# Altium integrated library Renesas Microcontroller 740.IntLib: 274 symbols (part 5 of 13)
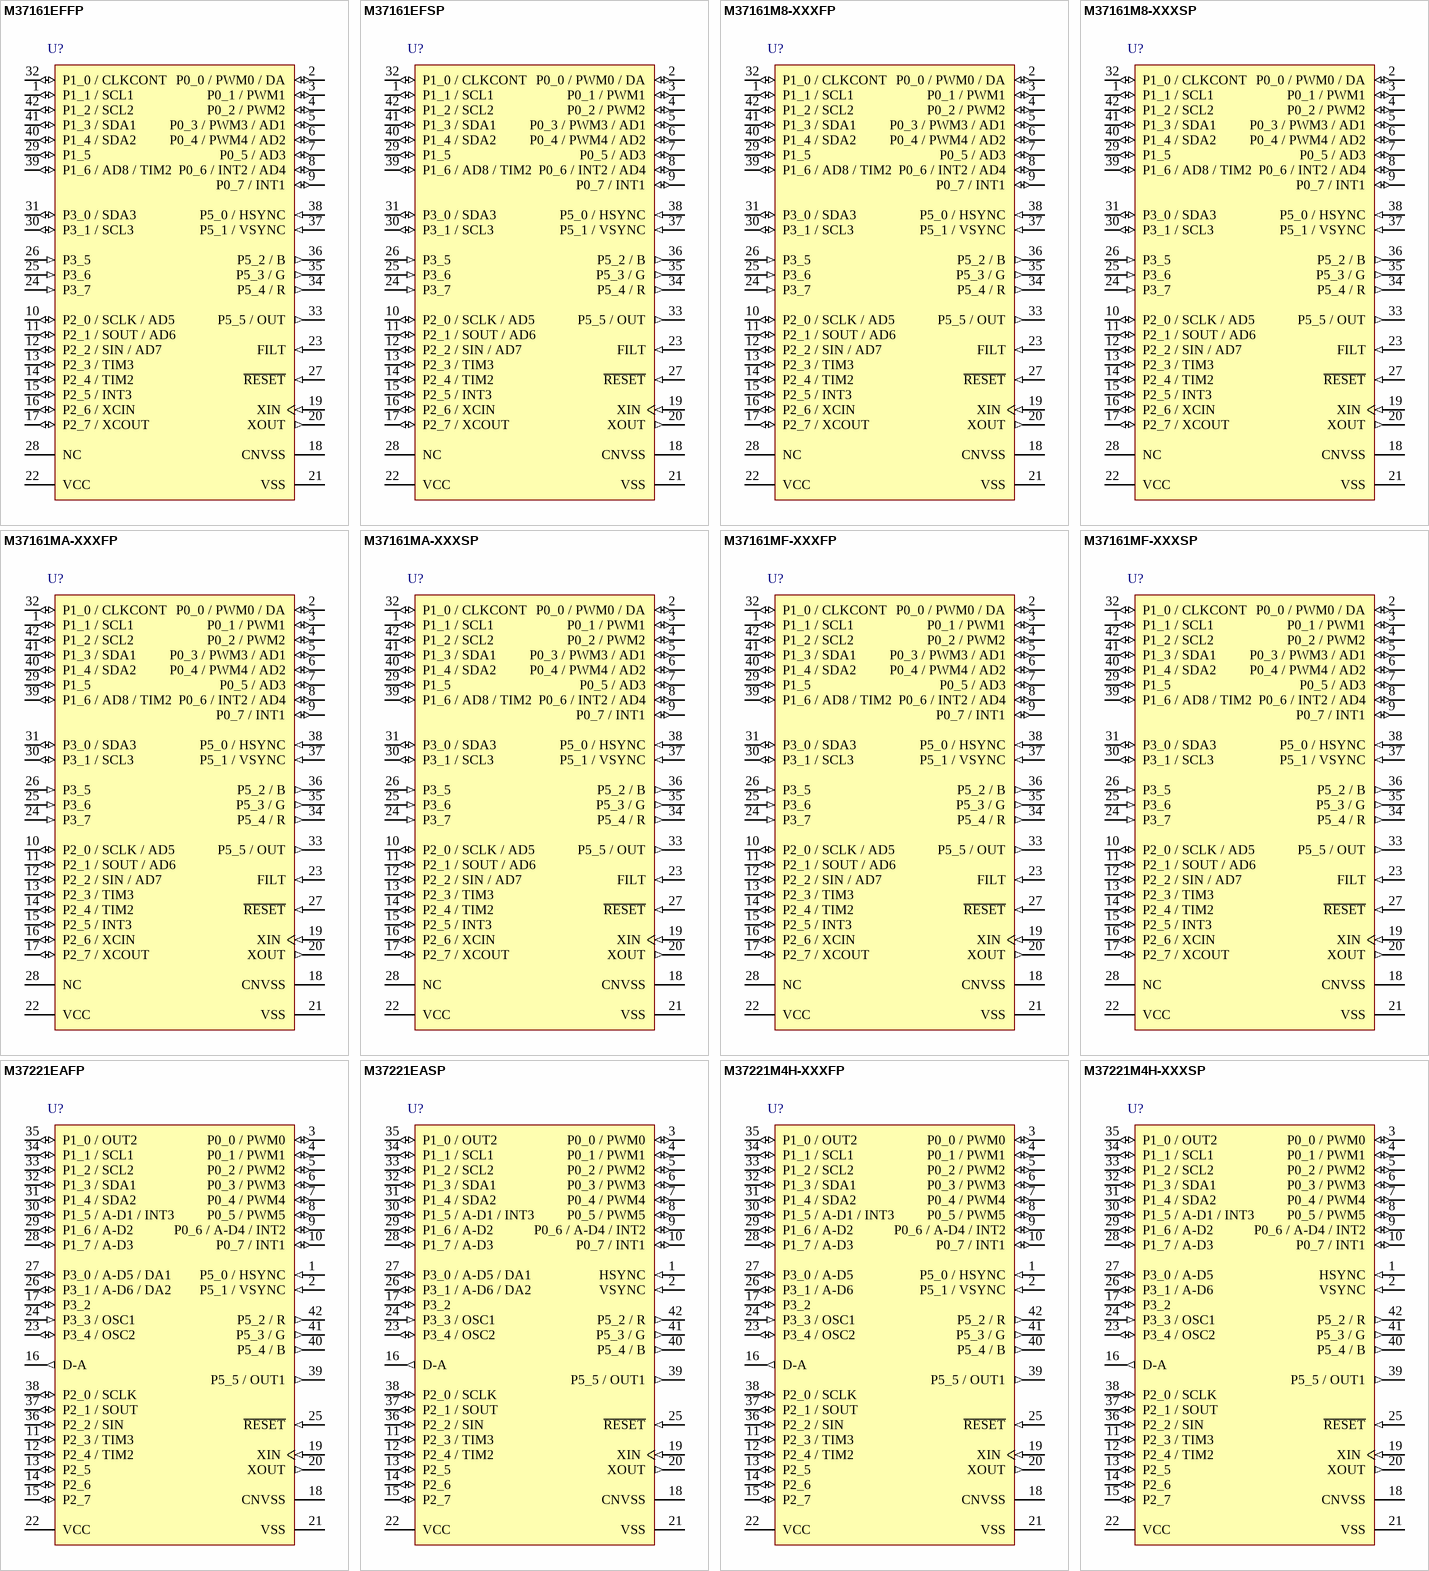
[diagram p41: symbols M37161EFFP to M37221M4H-XXXSP]

## M37221EASP
designator U?
OTP 8-BIT CMOS Microcomputer, 7200 Series CPU, 7221 Group, 40K ROM, 704 bytes RAM, 42P4B Pkg; ComponentAvailability: Check status with vendor; Published: 28-Aug-2009; DatasheetVersion: Rev.1.00, Oct-2002; PackageVersion: Sep-2005; PackageReference: PRDP0042BA-A; Publisher: Altium Limited; PackageDescription: 42-Pin Plastic Shrink DIP, 36.7 x 13 mm Body, 15.24 mm Row Spacing, 1.778 mm Pitch; Code_JEITA: P-SDIP42-13x36.72-1.78; ComponentLink1Description: Manufacturer Link; ComponentLink1URL: http://sg.renesas.com/fmwk.jsp?cnt=740_family_landing.jsp&fp=/products/mpumcu/740_family/; ComponentLink2Description: Datasheet; ComponentLink2URL: http://documentation.renesas.com/eng/products/mpumcu/rej03b0134_7221ds.pdf; ComponentLink3Description: Packaging Specification; ComponentLink3URL: http://sg.renesas.com/media/products/common_info/package/pdf/ic/code/prdp0042ba_a.pdf
footprint PRDP0042BA-A (DIP, 42-Leads, Row Spacing 15.24mm, Pitch 1.778mm, Body 36.7x13mm)
pins: 1 HSYNC (in), 2 VSYNC (in), 3 P0_0 / PWM0 (io), 4 P0_1 / PWM1 (io), 5 P0_2 / PWM2 (io), 6 P0_3 / PWM3 (io), 7 P0_4 / PWM4 (io), 8 P0_5 / PWM5 (io), 9 P0_6 / A-D4 / INT2 (io), 10 P0_7 / INT1 (io), 11 P2_3 / TIM3 (io), 12 P2_4 / TIM2 (io), 13 P2_5 (io), 14 P2_6 (io), 15 P2_7 (io), 16 D-A (out), 17 P3_2 (io), 18 CNVSS (power), 19 XIN (in), 20 XOUT (out), 21 VSS (power), 22 VCC (power), 23 P3_4 / OSC2 (io), 24 P3_3 / OSC1 (in), 25 ~{RESET} (in), 26 P3_1 / A-D6 / DA2 (io), 27 P3_0 / A-D5 / DA1 (io), 28 P1_7 / A-D3 (io), 29 P1_6 / A-D2 (io), 30 P1_5 / A-D1 / INT3 (io), 31 P1_4 / SDA2 (io), 32 P1_3 / SDA1 (io), 33 P1_2 / SCL2 (io), 34 P1_1 / SCL1 (io), 35 P1_0 / OUT2 (io), 36 P2_2 / SIN (io), 37 P2_1 / SOUT (io), 38 P2_0 / SCLK (io), 39 P5_5 / OUT1 (out), 40 P5_4 / B (out), 41 P5_3 / G (out), 42 P5_2 / R (out)

## M37221M4H-XXXFP
designator U?
Mask ROM 8-BIT CMOS Microcomputer, 7200 Series CPU, 7221 Group, 16K ROM, 384 bytes RAM, 42P2R-E Pkg; ComponentAvailability: Check status with vendor; Published: 28-Aug-2009; DatasheetVersion: Rev.1.00, Oct-2002; PackageVersion: Sep-2005; PackageReference: PRSP0042GA-B; Publisher: Altium Limited; PackageDescription: 42-Pin Plastic Shrink SOP, 17.5 x 8.4 mm Body, 0.8 mm Pitch; Code_JEITA: P-SSOP42-8.4x17.5-0.80; ComponentLink1Description: Manufacturer Link; ComponentLink1URL: http://sg.renesas.com/fmwk.jsp?cnt=740_family_landing.jsp&fp=/products/mpumcu/740_family/; ComponentLink2Description: Datasheet; ComponentLink2URL: http://documentation.renesas.com/eng/products/mpumcu/rej03b0134_7221ds.pdf; ComponentLink3Description: Packaging Specification; ComponentLink3URL: http://sg.renesas.com/media/products/common_info/package/pdf/ic/code/prsp0042ga_b.pdf
footprint PRSP0042GA-B_N (SOP, 42-Leads, Body 17.5x8.4mm, Pitch 0.8mm, IPC Medium Density)
footprint PRSP0042GA-B_L (SOP, 42-Leads, Body 17.5x8.4mm, Pitch 0.8mm, IPC High Density)
footprint PRSP0042GA-B_M (SOP, 42-Leads, Body 17.5x8.4mm, Pitch 0.8mm, IPC Low Density)
pins: 1 P5_0 / HSYNC (in), 2 P5_1 / VSYNC (in), 3 P0_0 / PWM0 (io), 4 P0_1 / PWM1 (io), 5 P0_2 / PWM2 (io), 6 P0_3 / PWM3 (io), 7 P0_4 / PWM4 (io), 8 P0_5 / PWM5 (io), 9 P0_6 / A-D4 / INT2 (io), 10 P0_7 / INT1 (io), 11 P2_3 / TIM3 (io), 12 P2_4 / TIM2 (io), 13 P2_5 (io), 14 P2_6 (io), 15 P2_7 (io), 16 D-A (out), 17 P3_2 (io), 18 CNVSS (power), 19 XIN (in), 20 XOUT (out), 21 VSS (power), 22 VCC (power), 23 P3_4 / OSC2 (io), 24 P3_3 / OSC1 (in), 25 ~{RESET} (in), 26 P3_1 / A-D6 (io), 27 P3_0 / A-D5 (io), 28 P1_7 / A-D3 (io), 29 P1_6 / A-D2 (io), 30 P1_5 / A-D1 / INT3 (io), 31 P1_4 / SDA2 (io), 32 P1_3 / SDA1 (io), 33 P1_2 / SCL2 (io), 34 P1_1 / SCL1 (io), 35 P1_0 / OUT2 (io), 36 P2_2 / SIN (io), 37 P2_1 / SOUT (io), 38 P2_0 / SCLK (io), 39 P5_5 / OUT1 (out), 40 P5_4 / B (out), 41 P5_3 / G (out), 42 P5_2 / R (out)

## M37221M4H-XXXSP
designator U?
Mask ROM 8-BIT CMOS Microcomputer, 7200 Series CPU, 7221 Group, 16K ROM, 384 bytes RAM, 42P4B Pkg; ComponentAvailability: Check status with vendor; Published: 28-Aug-2009; DatasheetVersion: Rev.1.00, Oct-2002; PackageVersion: Sep-2005; PackageReference: PRDP0042BA-A; Publisher: Altium Limited; PackageDescription: 42-Pin Plastic Shrink DIP, 36.7 x 13 mm Body, 15.24 mm Row Spacing, 1.778 mm Pitch; Code_JEITA: P-SDIP42-13x36.72-1.78; ComponentLink1Description: Manufacturer Link; ComponentLink1URL: http://sg.renesas.com/fmwk.jsp?cnt=740_family_landing.jsp&fp=/products/mpumcu/740_family/; ComponentLink2Description: Datasheet; ComponentLink2URL: http://documentation.renesas.com/eng/products/mpumcu/rej03b0134_7221ds.pdf; ComponentLink3Description: Packaging Specification; ComponentLink3URL: http://sg.renesas.com/media/products/common_info/package/pdf/ic/code/prdp0042ba_a.pdf
footprint PRDP0042BA-A (DIP, 42-Leads, Row Spacing 15.24mm, Pitch 1.778mm, Body 36.7x13mm)
pins: 1 HSYNC (in), 2 VSYNC (in), 3 P0_0 / PWM0 (io), 4 P0_1 / PWM1 (io), 5 P0_2 / PWM2 (io), 6 P0_3 / PWM3 (io), 7 P0_4 / PWM4 (io), 8 P0_5 / PWM5 (io), 9 P0_6 / A-D4 / INT2 (io), 10 P0_7 / INT1 (io), 11 P2_3 / TIM3 (io), 12 P2_4 / TIM2 (io), 13 P2_5 (io), 14 P2_6 (io), 15 P2_7 (io), 16 D-A (out), 17 P3_2 (io), 18 CNVSS (power), 19 XIN (in), 20 XOUT (out), 21 VSS (power), 22 VCC (power), 23 P3_4 / OSC2 (io), 24 P3_3 / OSC1 (in), 25 ~{RESET} (in), 26 P3_1 / A-D6 (io), 27 P3_0 / A-D5 (io), 28 P1_7 / A-D3 (io), 29 P1_6 / A-D2 (io), 30 P1_5 / A-D1 / INT3 (io), 31 P1_4 / SDA2 (io), 32 P1_3 / SDA1 (io), 33 P1_2 / SCL2 (io), 34 P1_1 / SCL1 (io), 35 P1_0 / OUT2 (io), 36 P2_2 / SIN (io), 37 P2_1 / SOUT (io), 38 P2_0 / SCLK (io), 39 P5_5 / OUT1 (out), 40 P5_4 / B (out), 41 P5_3 / G (out), 42 P5_2 / R (out)

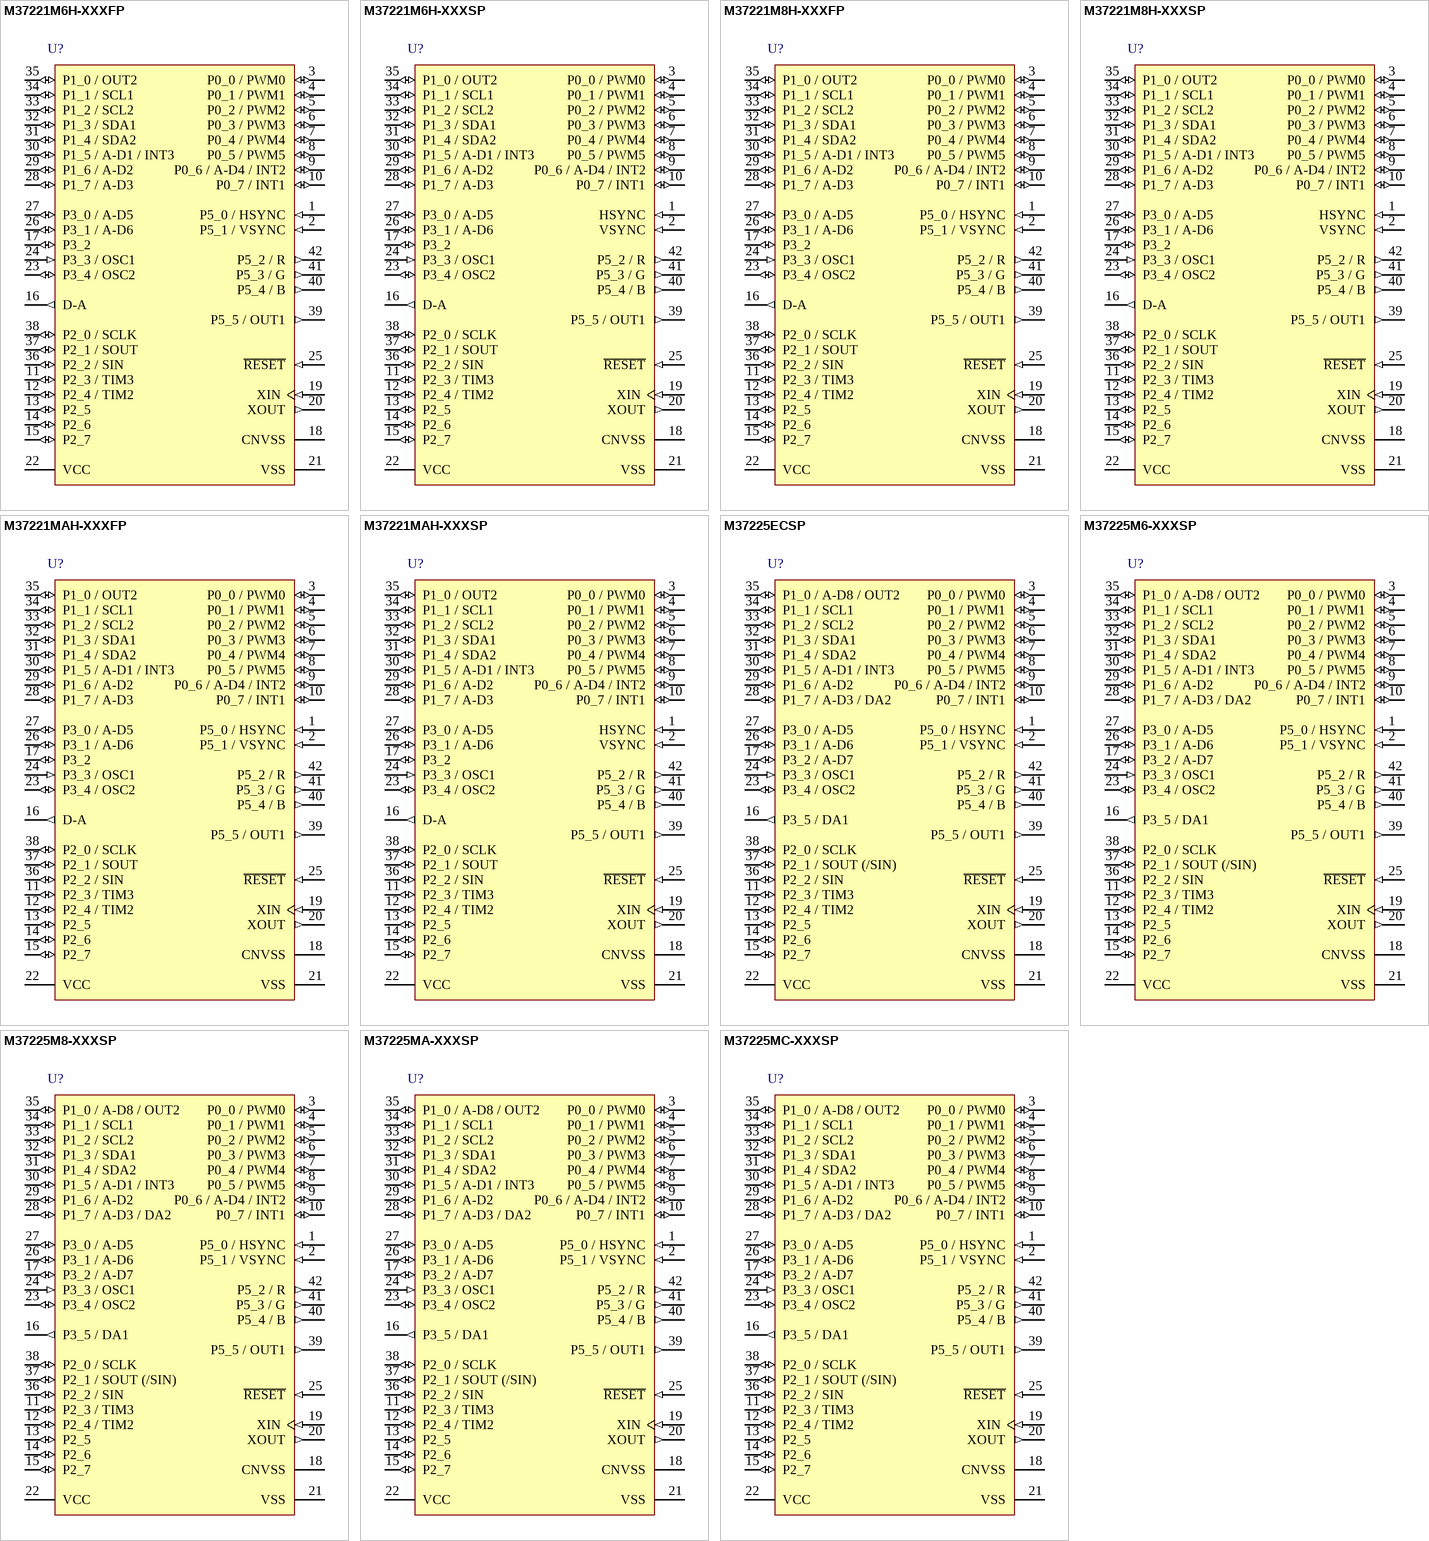
[diagram p14: symbols M37221M6H-XXXFP to M37225MC-XXXSP]

## M37221M6H-XXXFP
designator U?
Mask ROM 8-BIT CMOS Microcomputer, 7200 Series CPU, 7221 Group, 24K ROM, 448 bytes RAM, 42P2R-E Pkg; ComponentAvailability: Check status with vendor; Published: 28-Aug-2009; DatasheetVersion: Rev.1.00, Oct-2002; PackageVersion: Sep-2005; PackageReference: PRSP0042GA-B; Publisher: Altium Limited; PackageDescription: 42-Pin Plastic Shrink SOP, 17.5 x 8.4 mm Body, 0.8 mm Pitch; Code_JEITA: P-SSOP42-8.4x17.5-0.80; ComponentLink1Description: Manufacturer Link; ComponentLink1URL: http://sg.renesas.com/fmwk.jsp?cnt=740_family_landing.jsp&fp=/products/mpumcu/740_family/; ComponentLink2Description: Datasheet; ComponentLink2URL: http://documentation.renesas.com/eng/products/mpumcu/rej03b0134_7221ds.pdf; ComponentLink3Description: Packaging Specification; ComponentLink3URL: http://sg.renesas.com/media/products/common_info/package/pdf/ic/code/prsp0042ga_b.pdf
footprint PRSP0042GA-B_N (SOP, 42-Leads, Body 17.5x8.4mm, Pitch 0.8mm, IPC Medium Density)
footprint PRSP0042GA-B_L (SOP, 42-Leads, Body 17.5x8.4mm, Pitch 0.8mm, IPC High Density)
footprint PRSP0042GA-B_M (SOP, 42-Leads, Body 17.5x8.4mm, Pitch 0.8mm, IPC Low Density)
pins: 1 P5_0 / HSYNC (in), 2 P5_1 / VSYNC (in), 3 P0_0 / PWM0 (io), 4 P0_1 / PWM1 (io), 5 P0_2 / PWM2 (io), 6 P0_3 / PWM3 (io), 7 P0_4 / PWM4 (io), 8 P0_5 / PWM5 (io), 9 P0_6 / A-D4 / INT2 (io), 10 P0_7 / INT1 (io), 11 P2_3 / TIM3 (io), 12 P2_4 / TIM2 (io), 13 P2_5 (io), 14 P2_6 (io), 15 P2_7 (io), 16 D-A (out), 17 P3_2 (io), 18 CNVSS (power), 19 XIN (in), 20 XOUT (out), 21 VSS (power), 22 VCC (power), 23 P3_4 / OSC2 (io), 24 P3_3 / OSC1 (in), 25 ~{RESET} (in), 26 P3_1 / A-D6 (io), 27 P3_0 / A-D5 (io), 28 P1_7 / A-D3 (io), 29 P1_6 / A-D2 (io), 30 P1_5 / A-D1 / INT3 (io), 31 P1_4 / SDA2 (io), 32 P1_3 / SDA1 (io), 33 P1_2 / SCL2 (io), 34 P1_1 / SCL1 (io), 35 P1_0 / OUT2 (io), 36 P2_2 / SIN (io), 37 P2_1 / SOUT (io), 38 P2_0 / SCLK (io), 39 P5_5 / OUT1 (out), 40 P5_4 / B (out), 41 P5_3 / G (out), 42 P5_2 / R (out)

## M37221M6H-XXXSP
designator U?
Mask ROM 8-BIT CMOS Microcomputer, 7200 Series CPU, 7221 Group, 24K ROM, 448 bytes RAM, 42P4B Pkg; ComponentAvailability: Check status with vendor; Published: 28-Aug-2009; DatasheetVersion: Rev.1.00, Oct-2002; PackageVersion: Sep-2005; PackageReference: PRDP0042BA-A; Publisher: Altium Limited; PackageDescription: 42-Pin Plastic Shrink DIP, 36.7 x 13 mm Body, 15.24 mm Row Spacing, 1.778 mm Pitch; Code_JEITA: P-SDIP42-13x36.72-1.78; ComponentLink1Description: Manufacturer Link; ComponentLink1URL: http://sg.renesas.com/fmwk.jsp?cnt=740_family_landing.jsp&fp=/products/mpumcu/740_family/; ComponentLink2Description: Datasheet; ComponentLink2URL: http://documentation.renesas.com/eng/products/mpumcu/rej03b0134_7221ds.pdf; ComponentLink3Description: Packaging Specification; ComponentLink3URL: http://sg.renesas.com/media/products/common_info/package/pdf/ic/code/prdp0042ba_a.pdf
footprint PRDP0042BA-A (DIP, 42-Leads, Row Spacing 15.24mm, Pitch 1.778mm, Body 36.7x13mm)
pins: 1 HSYNC (in), 2 VSYNC (in), 3 P0_0 / PWM0 (io), 4 P0_1 / PWM1 (io), 5 P0_2 / PWM2 (io), 6 P0_3 / PWM3 (io), 7 P0_4 / PWM4 (io), 8 P0_5 / PWM5 (io), 9 P0_6 / A-D4 / INT2 (io), 10 P0_7 / INT1 (io), 11 P2_3 / TIM3 (io), 12 P2_4 / TIM2 (io), 13 P2_5 (io), 14 P2_6 (io), 15 P2_7 (io), 16 D-A (out), 17 P3_2 (io), 18 CNVSS (power), 19 XIN (in), 20 XOUT (out), 21 VSS (power), 22 VCC (power), 23 P3_4 / OSC2 (io), 24 P3_3 / OSC1 (in), 25 ~{RESET} (in), 26 P3_1 / A-D6 (io), 27 P3_0 / A-D5 (io), 28 P1_7 / A-D3 (io), 29 P1_6 / A-D2 (io), 30 P1_5 / A-D1 / INT3 (io), 31 P1_4 / SDA2 (io), 32 P1_3 / SDA1 (io), 33 P1_2 / SCL2 (io), 34 P1_1 / SCL1 (io), 35 P1_0 / OUT2 (io), 36 P2_2 / SIN (io), 37 P2_1 / SOUT (io), 38 P2_0 / SCLK (io), 39 P5_5 / OUT1 (out), 40 P5_4 / B (out), 41 P5_3 / G (out), 42 P5_2 / R (out)

## M37221M8H-XXXFP
designator U?
Mask ROM 8-BIT CMOS Microcomputer, 7200 Series CPU, 7221 Group, 32K ROM, 576 bytes RAM, 42P2R-E Pkg; ComponentAvailability: Check status with vendor; Published: 28-Aug-2009; DatasheetVersion: Rev.1.00, Oct-2002; PackageVersion: Sep-2005; PackageReference: PRSP0042GA-B; Publisher: Altium Limited; PackageDescription: 42-Pin Plastic Shrink SOP, 17.5 x 8.4 mm Body, 0.8 mm Pitch; Code_JEITA: P-SSOP42-8.4x17.5-0.80; ComponentLink1Description: Manufacturer Link; ComponentLink1URL: http://sg.renesas.com/fmwk.jsp?cnt=740_family_landing.jsp&fp=/products/mpumcu/740_family/; ComponentLink2Description: Datasheet; ComponentLink2URL: http://documentation.renesas.com/eng/products/mpumcu/rej03b0134_7221ds.pdf; ComponentLink3Description: Packaging Specification; ComponentLink3URL: http://sg.renesas.com/media/products/common_info/package/pdf/ic/code/prsp0042ga_b.pdf
footprint PRSP0042GA-B_N (SOP, 42-Leads, Body 17.5x8.4mm, Pitch 0.8mm, IPC Medium Density)
footprint PRSP0042GA-B_L (SOP, 42-Leads, Body 17.5x8.4mm, Pitch 0.8mm, IPC High Density)
footprint PRSP0042GA-B_M (SOP, 42-Leads, Body 17.5x8.4mm, Pitch 0.8mm, IPC Low Density)
pins: 1 P5_0 / HSYNC (in), 2 P5_1 / VSYNC (in), 3 P0_0 / PWM0 (io), 4 P0_1 / PWM1 (io), 5 P0_2 / PWM2 (io), 6 P0_3 / PWM3 (io), 7 P0_4 / PWM4 (io), 8 P0_5 / PWM5 (io), 9 P0_6 / A-D4 / INT2 (io), 10 P0_7 / INT1 (io), 11 P2_3 / TIM3 (io), 12 P2_4 / TIM2 (io), 13 P2_5 (io), 14 P2_6 (io), 15 P2_7 (io), 16 D-A (out), 17 P3_2 (io), 18 CNVSS (power), 19 XIN (in), 20 XOUT (out), 21 VSS (power), 22 VCC (power), 23 P3_4 / OSC2 (io), 24 P3_3 / OSC1 (in), 25 ~{RESET} (in), 26 P3_1 / A-D6 (io), 27 P3_0 / A-D5 (io), 28 P1_7 / A-D3 (io), 29 P1_6 / A-D2 (io), 30 P1_5 / A-D1 / INT3 (io), 31 P1_4 / SDA2 (io), 32 P1_3 / SDA1 (io), 33 P1_2 / SCL2 (io), 34 P1_1 / SCL1 (io), 35 P1_0 / OUT2 (io), 36 P2_2 / SIN (io), 37 P2_1 / SOUT (io), 38 P2_0 / SCLK (io), 39 P5_5 / OUT1 (out), 40 P5_4 / B (out), 41 P5_3 / G (out), 42 P5_2 / R (out)

## M37221M8H-XXXSP
designator U?
Mask ROM 8-BIT CMOS Microcomputer, 7200 Series CPU, 7221 Group, 32K ROM, 576 bytes RAM, 42P4B Pkg; ComponentAvailability: Check status with vendor; Published: 28-Aug-2009; DatasheetVersion: Rev.1.00, Oct-2002; PackageVersion: Sep-2005; PackageReference: PRDP0042BA-A; Publisher: Altium Limited; PackageDescription: 42-Pin Plastic Shrink DIP, 36.7 x 13 mm Body, 15.24 mm Row Spacing, 1.778 mm Pitch; Code_JEITA: P-SDIP42-13x36.72-1.78; ComponentLink1Description: Manufacturer Link; ComponentLink1URL: http://sg.renesas.com/fmwk.jsp?cnt=740_family_landing.jsp&fp=/products/mpumcu/740_family/; ComponentLink2Description: Datasheet; ComponentLink2URL: http://documentation.renesas.com/eng/products/mpumcu/rej03b0134_7221ds.pdf; ComponentLink3Description: Packaging Specification; ComponentLink3URL: http://sg.renesas.com/media/products/common_info/package/pdf/ic/code/prdp0042ba_a.pdf
footprint PRDP0042BA-A (DIP, 42-Leads, Row Spacing 15.24mm, Pitch 1.778mm, Body 36.7x13mm)
pins: 1 HSYNC (in), 2 VSYNC (in), 3 P0_0 / PWM0 (io), 4 P0_1 / PWM1 (io), 5 P0_2 / PWM2 (io), 6 P0_3 / PWM3 (io), 7 P0_4 / PWM4 (io), 8 P0_5 / PWM5 (io), 9 P0_6 / A-D4 / INT2 (io), 10 P0_7 / INT1 (io), 11 P2_3 / TIM3 (io), 12 P2_4 / TIM2 (io), 13 P2_5 (io), 14 P2_6 (io), 15 P2_7 (io), 16 D-A (out), 17 P3_2 (io), 18 CNVSS (power), 19 XIN (in), 20 XOUT (out), 21 VSS (power), 22 VCC (power), 23 P3_4 / OSC2 (io), 24 P3_3 / OSC1 (in), 25 ~{RESET} (in), 26 P3_1 / A-D6 (io), 27 P3_0 / A-D5 (io), 28 P1_7 / A-D3 (io), 29 P1_6 / A-D2 (io), 30 P1_5 / A-D1 / INT3 (io), 31 P1_4 / SDA2 (io), 32 P1_3 / SDA1 (io), 33 P1_2 / SCL2 (io), 34 P1_1 / SCL1 (io), 35 P1_0 / OUT2 (io), 36 P2_2 / SIN (io), 37 P2_1 / SOUT (io), 38 P2_0 / SCLK (io), 39 P5_5 / OUT1 (out), 40 P5_4 / B (out), 41 P5_3 / G (out), 42 P5_2 / R (out)

## M37221MAH-XXXFP
designator U?
Mask ROM 8-BIT CMOS Microcomputer, 7200 Series CPU, 7221 Group, 40K ROM, 704 bytes RAM, 42P2R-E Pkg; ComponentAvailability: Check status with vendor; Published: 28-Aug-2009; DatasheetVersion: Rev.1.00, Oct-2002; PackageVersion: Sep-2005; PackageReference: PRSP0042GA-B; Publisher: Altium Limited; PackageDescription: 42-Pin Plastic Shrink SOP, 17.5 x 8.4 mm Body, 0.8 mm Pitch; Code_JEITA: P-SSOP42-8.4x17.5-0.80; ComponentLink1Description: Manufacturer Link; ComponentLink1URL: http://sg.renesas.com/fmwk.jsp?cnt=740_family_landing.jsp&fp=/products/mpumcu/740_family/; ComponentLink2Description: Datasheet; ComponentLink2URL: http://documentation.renesas.com/eng/products/mpumcu/rej03b0134_7221ds.pdf; ComponentLink3Description: Packaging Specification; ComponentLink3URL: http://sg.renesas.com/media/products/common_info/package/pdf/ic/code/prsp0042ga_b.pdf
footprint PRSP0042GA-B_N (SOP, 42-Leads, Body 17.5x8.4mm, Pitch 0.8mm, IPC Medium Density)
footprint PRSP0042GA-B_L (SOP, 42-Leads, Body 17.5x8.4mm, Pitch 0.8mm, IPC High Density)
footprint PRSP0042GA-B_M (SOP, 42-Leads, Body 17.5x8.4mm, Pitch 0.8mm, IPC Low Density)
pins: 1 P5_0 / HSYNC (in), 2 P5_1 / VSYNC (in), 3 P0_0 / PWM0 (io), 4 P0_1 / PWM1 (io), 5 P0_2 / PWM2 (io), 6 P0_3 / PWM3 (io), 7 P0_4 / PWM4 (io), 8 P0_5 / PWM5 (io), 9 P0_6 / A-D4 / INT2 (io), 10 P0_7 / INT1 (io), 11 P2_3 / TIM3 (io), 12 P2_4 / TIM2 (io), 13 P2_5 (io), 14 P2_6 (io), 15 P2_7 (io), 16 D-A (out), 17 P3_2 (io), 18 CNVSS (power), 19 XIN (in), 20 XOUT (out), 21 VSS (power), 22 VCC (power), 23 P3_4 / OSC2 (io), 24 P3_3 / OSC1 (in), 25 ~{RESET} (in), 26 P3_1 / A-D6 (io), 27 P3_0 / A-D5 (io), 28 P1_7 / A-D3 (io), 29 P1_6 / A-D2 (io), 30 P1_5 / A-D1 / INT3 (io), 31 P1_4 / SDA2 (io), 32 P1_3 / SDA1 (io), 33 P1_2 / SCL2 (io), 34 P1_1 / SCL1 (io), 35 P1_0 / OUT2 (io), 36 P2_2 / SIN (io), 37 P2_1 / SOUT (io), 38 P2_0 / SCLK (io), 39 P5_5 / OUT1 (out), 40 P5_4 / B (out), 41 P5_3 / G (out), 42 P5_2 / R (out)

## M37221MAH-XXXSP
designator U?
Mask ROM 8-BIT CMOS Microcomputer, 7200 Series CPU, 7221 Group, 40K ROM, 704 bytes RAM, 42P4B Pkg; ComponentAvailability: Check status with vendor; Published: 28-Aug-2009; DatasheetVersion: Rev.1.00, Oct-2002; PackageVersion: Sep-2005; PackageReference: PRDP0042BA-A; Publisher: Altium Limited; PackageDescription: 42-Pin Plastic Shrink DIP, 36.7 x 13 mm Body, 15.24 mm Row Spacing, 1.778 mm Pitch; Code_JEITA: P-SDIP42-13x36.72-1.78; ComponentLink1Description: Manufacturer Link; ComponentLink1URL: http://sg.renesas.com/fmwk.jsp?cnt=740_family_landing.jsp&fp=/products/mpumcu/740_family/; ComponentLink2Description: Datasheet; ComponentLink2URL: http://documentation.renesas.com/eng/products/mpumcu/rej03b0134_7221ds.pdf; ComponentLink3Description: Packaging Specification; ComponentLink3URL: http://sg.renesas.com/media/products/common_info/package/pdf/ic/code/prdp0042ba_a.pdf
footprint PRDP0042BA-A (DIP, 42-Leads, Row Spacing 15.24mm, Pitch 1.778mm, Body 36.7x13mm)
pins: 1 HSYNC (in), 2 VSYNC (in), 3 P0_0 / PWM0 (io), 4 P0_1 / PWM1 (io), 5 P0_2 / PWM2 (io), 6 P0_3 / PWM3 (io), 7 P0_4 / PWM4 (io), 8 P0_5 / PWM5 (io), 9 P0_6 / A-D4 / INT2 (io), 10 P0_7 / INT1 (io), 11 P2_3 / TIM3 (io), 12 P2_4 / TIM2 (io), 13 P2_5 (io), 14 P2_6 (io), 15 P2_7 (io), 16 D-A (out), 17 P3_2 (io), 18 CNVSS (power), 19 XIN (in), 20 XOUT (out), 21 VSS (power), 22 VCC (power), 23 P3_4 / OSC2 (io), 24 P3_3 / OSC1 (in), 25 ~{RESET} (in), 26 P3_1 / A-D6 (io), 27 P3_0 / A-D5 (io), 28 P1_7 / A-D3 (io), 29 P1_6 / A-D2 (io), 30 P1_5 / A-D1 / INT3 (io), 31 P1_4 / SDA2 (io), 32 P1_3 / SDA1 (io), 33 P1_2 / SCL2 (io), 34 P1_1 / SCL1 (io), 35 P1_0 / OUT2 (io), 36 P2_2 / SIN (io), 37 P2_1 / SOUT (io), 38 P2_0 / SCLK (io), 39 P5_5 / OUT1 (out), 40 P5_4 / B (out), 41 P5_3 / G (out), 42 P5_2 / R (out)

## M37225ECSP
designator U?
OTP 8-BIT CMOS Microcomputer, 7200 Series CPU, 7225 Group, 48K ROM, 2K RAM, 42P4B Pkg; ComponentAvailability: Check status with vendor; Published: 28-Aug-2009; DatasheetVersion: Rev.1.00, Nov-2000; PackageVersion: Sep-2005; PackageReference: PRDP0042BA-A; Publisher: Altium Limited; PackageDescription: 42-Pin Plastic Shrink DIP, 36.7 x 13 mm Body, 15.24 mm Row Spacing, 1.778 mm Pitch; Code_JEITA: P-SDIP42-13x36.72-1.78; ComponentLink1Description: Manufacturer Link; ComponentLink1URL: http://sg.renesas.com/fmwk.jsp?cnt=740_family_landing.jsp&fp=/products/mpumcu/740_family/; ComponentLink2Description: Datasheet; ComponentLink2URL: http://documentation.renesas.com/eng/products/mpumcu/rej03b0136_7225ds.pdf; ComponentLink3Description: Packaging Specification; ComponentLink3URL: http://sg.renesas.com/media/products/common_info/package/pdf/ic/code/prdp0042ba_a.pdf
footprint PRDP0042BA-A (DIP, 42-Leads, Row Spacing 15.24mm, Pitch 1.778mm, Body 36.7x13mm)
pins: 1 P5_0 / HSYNC (in), 2 P5_1 / VSYNC (in), 3 P0_0 / PWM0 (io), 4 P0_1 / PWM1 (io), 5 P0_2 / PWM2 (io), 6 P0_3 / PWM3 (io), 7 P0_4 / PWM4 (io), 8 P0_5 / PWM5 (io), 9 P0_6 / A-D4 / INT2 (io), 10 P0_7 / INT1 (io), 11 P2_3 / TIM3 (io), 12 P2_4 / TIM2 (io), 13 P2_5 (io), 14 P2_6 (io), 15 P2_7 (io), 16 P3_5 / DA1 (out), 17 P3_2 / A-D7 (io), 18 CNVSS (power), 19 XIN (in), 20 XOUT (out), 21 VSS (power), 22 VCC (power), 23 P3_4 / OSC2 (io), 24 P3_3 / OSC1 (in), 25 ~{RESET} (in), 26 P3_1 / A-D6 (io), 27 P3_0 / A-D5 (io), 28 P1_7 / A-D3 / DA2 (io), 29 P1_6 / A-D2 (io), 30 P1_5 / A-D1 / INT3 (io), 31 P1_4 / SDA2 (io), 32 P1_3 / SDA1 (io), 33 P1_2 / SCL2 (io), 34 P1_1 / SCL1 (io), 35 P1_0 / A-D8 / OUT2 (io), 36 P2_2 / SIN (io), 37 P2_1 / SOUT (/SIN) (io), 38 P2_0 / SCLK (io), 39 P5_5 / OUT1 (out), 40 P5_4 / B (out), 41 P5_3 / G (out), 42 P5_2 / R (out)

## M37225M6-XXXSP
designator U?
Mask ROM 8-BIT CMOS Microcomputer, 7200 Series CPU, 7225 Group, 24K ROM, 1K RAM, 42P4B Pkg; ComponentAvailability: Check status with vendor; Published: 28-Aug-2009; DatasheetVersion: Rev.1.00, Nov-2000; PackageVersion: Sep-2005; PackageReference: PRDP0042BA-A; Publisher: Altium Limited; PackageDescription: 42-Pin Plastic Shrink DIP, 36.7 x 13 mm Body, 15.24 mm Row Spacing, 1.778 mm Pitch; Code_JEITA: P-SDIP42-13x36.72-1.78; ComponentLink1Description: Manufacturer Link; ComponentLink1URL: http://sg.renesas.com/fmwk.jsp?cnt=740_family_landing.jsp&fp=/products/mpumcu/740_family/; ComponentLink2Description: Datasheet; ComponentLink2URL: http://documentation.renesas.com/eng/products/mpumcu/rej03b0136_7225ds.pdf; ComponentLink3Description: Packaging Specification; ComponentLink3URL: http://sg.renesas.com/media/products/common_info/package/pdf/ic/code/prdp0042ba_a.pdf
footprint PRDP0042BA-A (DIP, 42-Leads, Row Spacing 15.24mm, Pitch 1.778mm, Body 36.7x13mm)
pins: 1 P5_0 / HSYNC (in), 2 P5_1 / VSYNC (in), 3 P0_0 / PWM0 (io), 4 P0_1 / PWM1 (io), 5 P0_2 / PWM2 (io), 6 P0_3 / PWM3 (io), 7 P0_4 / PWM4 (io), 8 P0_5 / PWM5 (io), 9 P0_6 / A-D4 / INT2 (io), 10 P0_7 / INT1 (io), 11 P2_3 / TIM3 (io), 12 P2_4 / TIM2 (io), 13 P2_5 (io), 14 P2_6 (io), 15 P2_7 (io), 16 P3_5 / DA1 (out), 17 P3_2 / A-D7 (io), 18 CNVSS (power), 19 XIN (in), 20 XOUT (out), 21 VSS (power), 22 VCC (power), 23 P3_4 / OSC2 (io), 24 P3_3 / OSC1 (in), 25 ~{RESET} (in), 26 P3_1 / A-D6 (io), 27 P3_0 / A-D5 (io), 28 P1_7 / A-D3 / DA2 (io), 29 P1_6 / A-D2 (io), 30 P1_5 / A-D1 / INT3 (io), 31 P1_4 / SDA2 (io), 32 P1_3 / SDA1 (io), 33 P1_2 / SCL2 (io), 34 P1_1 / SCL1 (io), 35 P1_0 / A-D8 / OUT2 (io), 36 P2_2 / SIN (io), 37 P2_1 / SOUT (/SIN) (io), 38 P2_0 / SCLK (io), 39 P5_5 / OUT1 (out), 40 P5_4 / B (out), 41 P5_3 / G (out), 42 P5_2 / R (out)

## M37225M8-XXXSP
designator U?
Mask ROM 8-BIT CMOS Microcomputer, 7200 Series CPU, 7225 Group, 32K ROM, 1K RAM, 42P4B Pkg; ComponentAvailability: Check status with vendor; Published: 28-Aug-2009; DatasheetVersion: Rev.1.00, Nov-2000; PackageVersion: Sep-2005; PackageReference: PRDP0042BA-A; Publisher: Altium Limited; PackageDescription: 42-Pin Plastic Shrink DIP, 36.7 x 13 mm Body, 15.24 mm Row Spacing, 1.778 mm Pitch; Code_JEITA: P-SDIP42-13x36.72-1.78; ComponentLink1Description: Manufacturer Link; ComponentLink1URL: http://sg.renesas.com/fmwk.jsp?cnt=740_family_landing.jsp&fp=/products/mpumcu/740_family/; ComponentLink2Description: Datasheet; ComponentLink2URL: http://documentation.renesas.com/eng/products/mpumcu/rej03b0136_7225ds.pdf; ComponentLink3Description: Packaging Specification; ComponentLink3URL: http://sg.renesas.com/media/products/common_info/package/pdf/ic/code/prdp0042ba_a.pdf
footprint PRDP0042BA-A (DIP, 42-Leads, Row Spacing 15.24mm, Pitch 1.778mm, Body 36.7x13mm)
pins: 1 P5_0 / HSYNC (in), 2 P5_1 / VSYNC (in), 3 P0_0 / PWM0 (io), 4 P0_1 / PWM1 (io), 5 P0_2 / PWM2 (io), 6 P0_3 / PWM3 (io), 7 P0_4 / PWM4 (io), 8 P0_5 / PWM5 (io), 9 P0_6 / A-D4 / INT2 (io), 10 P0_7 / INT1 (io), 11 P2_3 / TIM3 (io), 12 P2_4 / TIM2 (io), 13 P2_5 (io), 14 P2_6 (io), 15 P2_7 (io), 16 P3_5 / DA1 (out), 17 P3_2 / A-D7 (io), 18 CNVSS (power), 19 XIN (in), 20 XOUT (out), 21 VSS (power), 22 VCC (power), 23 P3_4 / OSC2 (io), 24 P3_3 / OSC1 (in), 25 ~{RESET} (in), 26 P3_1 / A-D6 (io), 27 P3_0 / A-D5 (io), 28 P1_7 / A-D3 / DA2 (io), 29 P1_6 / A-D2 (io), 30 P1_5 / A-D1 / INT3 (io), 31 P1_4 / SDA2 (io), 32 P1_3 / SDA1 (io), 33 P1_2 / SCL2 (io), 34 P1_1 / SCL1 (io), 35 P1_0 / A-D8 / OUT2 (io), 36 P2_2 / SIN (io), 37 P2_1 / SOUT (/SIN) (io), 38 P2_0 / SCLK (io), 39 P5_5 / OUT1 (out), 40 P5_4 / B (out), 41 P5_3 / G (out), 42 P5_2 / R (out)

## M37225MA-XXXSP
designator U?
Mask ROM 8-BIT CMOS Microcomputer, 7200 Series CPU, 7225 Group, 40K ROM, 2K RAM, 42P4B Pkg; ComponentAvailability: Check status with vendor; Published: 28-Aug-2009; DatasheetVersion: Rev.1.00, Nov-2000; PackageVersion: Sep-2005; PackageReference: PRDP0042BA-A; Publisher: Altium Limited; PackageDescription: 42-Pin Plastic Shrink DIP, 36.7 x 13 mm Body, 15.24 mm Row Spacing, 1.778 mm Pitch; Code_JEITA: P-SDIP42-13x36.72-1.78; ComponentLink1Description: Manufacturer Link; ComponentLink1URL: http://sg.renesas.com/fmwk.jsp?cnt=740_family_landing.jsp&fp=/products/mpumcu/740_family/; ComponentLink2Description: Datasheet; ComponentLink2URL: http://documentation.renesas.com/eng/products/mpumcu/rej03b0136_7225ds.pdf; ComponentLink3Description: Packaging Specification; ComponentLink3URL: http://sg.renesas.com/media/products/common_info/package/pdf/ic/code/prdp0042ba_a.pdf
footprint PRDP0042BA-A (DIP, 42-Leads, Row Spacing 15.24mm, Pitch 1.778mm, Body 36.7x13mm)
pins: 1 P5_0 / HSYNC (in), 2 P5_1 / VSYNC (in), 3 P0_0 / PWM0 (io), 4 P0_1 / PWM1 (io), 5 P0_2 / PWM2 (io), 6 P0_3 / PWM3 (io), 7 P0_4 / PWM4 (io), 8 P0_5 / PWM5 (io), 9 P0_6 / A-D4 / INT2 (io), 10 P0_7 / INT1 (io), 11 P2_3 / TIM3 (io), 12 P2_4 / TIM2 (io), 13 P2_5 (io), 14 P2_6 (io), 15 P2_7 (io), 16 P3_5 / DA1 (out), 17 P3_2 / A-D7 (io), 18 CNVSS (power), 19 XIN (in), 20 XOUT (out), 21 VSS (power), 22 VCC (power), 23 P3_4 / OSC2 (io), 24 P3_3 / OSC1 (in), 25 ~{RESET} (in), 26 P3_1 / A-D6 (io), 27 P3_0 / A-D5 (io), 28 P1_7 / A-D3 / DA2 (io), 29 P1_6 / A-D2 (io), 30 P1_5 / A-D1 / INT3 (io), 31 P1_4 / SDA2 (io), 32 P1_3 / SDA1 (io), 33 P1_2 / SCL2 (io), 34 P1_1 / SCL1 (io), 35 P1_0 / A-D8 / OUT2 (io), 36 P2_2 / SIN (io), 37 P2_1 / SOUT (/SIN) (io), 38 P2_0 / SCLK (io), 39 P5_5 / OUT1 (out), 40 P5_4 / B (out), 41 P5_3 / G (out), 42 P5_2 / R (out)

## M37225MC-XXXSP
designator U?
Mask ROM 8-BIT CMOS Microcomputer, 7200 Series CPU, 7225 Group, 48K ROM, 2K RAM, 42P4B Pkg; ComponentAvailability: Check status with vendor; Published: 28-Aug-2009; DatasheetVersion: Rev.1.00, Nov-2000; PackageVersion: Sep-2005; PackageReference: PRDP0042BA-A; Publisher: Altium Limited; PackageDescription: 42-Pin Plastic Shrink DIP, 36.7 x 13 mm Body, 15.24 mm Row Spacing, 1.778 mm Pitch; Code_JEITA: P-SDIP42-13x36.72-1.78; ComponentLink1Description: Manufacturer Link; ComponentLink1URL: http://sg.renesas.com/fmwk.jsp?cnt=740_family_landing.jsp&fp=/products/mpumcu/740_family/; ComponentLink2Description: Datasheet; ComponentLink2URL: http://documentation.renesas.com/eng/products/mpumcu/rej03b0136_7225ds.pdf; ComponentLink3Description: Packaging Specification; ComponentLink3URL: http://sg.renesas.com/media/products/common_info/package/pdf/ic/code/prdp0042ba_a.pdf
footprint PRDP0042BA-A (DIP, 42-Leads, Row Spacing 15.24mm, Pitch 1.778mm, Body 36.7x13mm)
pins: 1 P5_0 / HSYNC (in), 2 P5_1 / VSYNC (in), 3 P0_0 / PWM0 (io), 4 P0_1 / PWM1 (io), 5 P0_2 / PWM2 (io), 6 P0_3 / PWM3 (io), 7 P0_4 / PWM4 (io), 8 P0_5 / PWM5 (io), 9 P0_6 / A-D4 / INT2 (io), 10 P0_7 / INT1 (io), 11 P2_3 / TIM3 (io), 12 P2_4 / TIM2 (io), 13 P2_5 (io), 14 P2_6 (io), 15 P2_7 (io), 16 P3_5 / DA1 (out), 17 P3_2 / A-D7 (io), 18 CNVSS (power), 19 XIN (in), 20 XOUT (out), 21 VSS (power), 22 VCC (power), 23 P3_4 / OSC2 (io), 24 P3_3 / OSC1 (in), 25 ~{RESET} (in), 26 P3_1 / A-D6 (io), 27 P3_0 / A-D5 (io), 28 P1_7 / A-D3 / DA2 (io), 29 P1_6 / A-D2 (io), 30 P1_5 / A-D1 / INT3 (io), 31 P1_4 / SDA2 (io), 32 P1_3 / SDA1 (io), 33 P1_2 / SCL2 (io), 34 P1_1 / SCL1 (io), 35 P1_0 / A-D8 / OUT2 (io), 36 P2_2 / SIN (io), 37 P2_1 / SOUT (/SIN) (io), 38 P2_0 / SCLK (io), 39 P5_5 / OUT1 (out), 40 P5_4 / B (out), 41 P5_3 / G (out), 42 P5_2 / R (out)

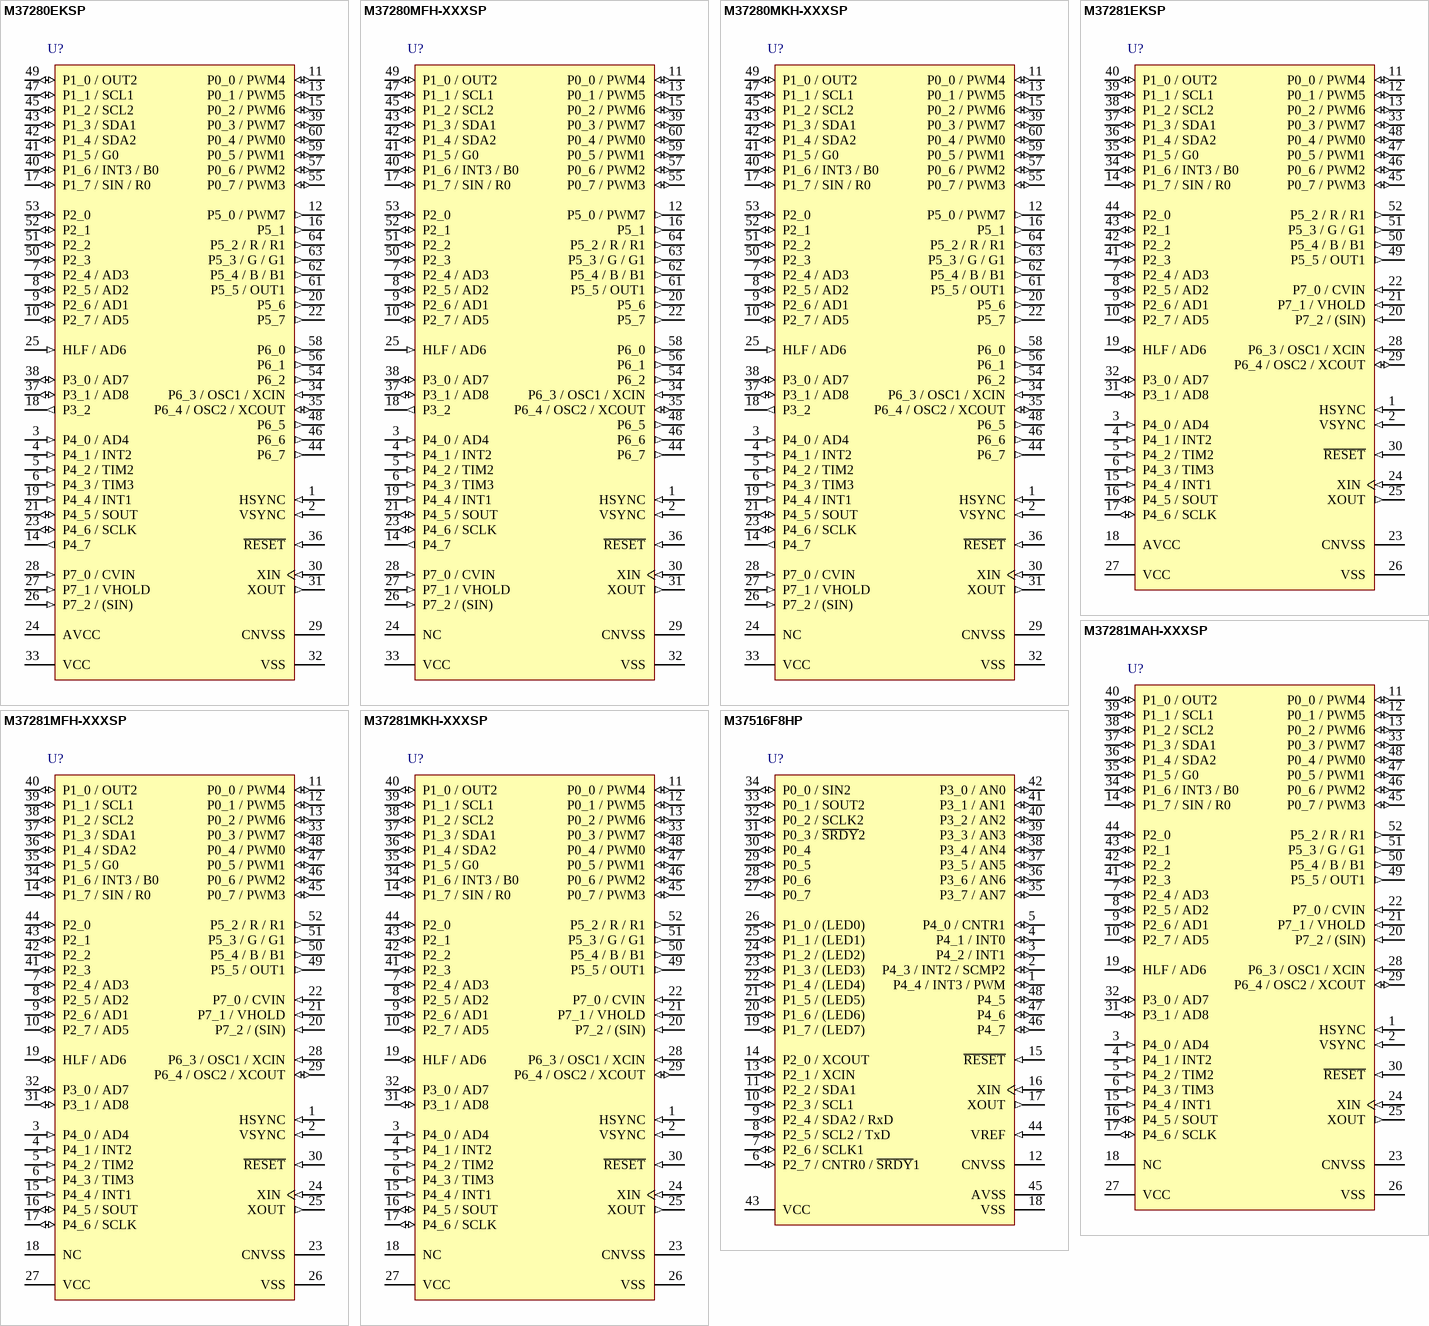
[diagram p15: symbols M37280EKSP to M37516F8HP]

## M37280EKSP
designator U?
OTP 8-BIT CMOS Microcomputer, 7200 Series CPU, 7280 Group, 80K ROM, 1.5K RAM, 64P4B Pkg; ComponentAvailability: Check status with vendor; Published: 28-Aug-2009; DatasheetVersion: Rev.1.00, Apr-2002; PackageVersion: Sep-2005; PackageReference: PRDP0064BA-A; Publisher: Altium Limited; PackageDescription: 64-Pin Plastic Shrink DIP, 56.4 x 17 mm Body, 19.05 mm Row Spacing , 1.778 mm Pitch; Code_JEITA: P-SDIP64-17x56.4-1.78; ComponentLink1Description: Manufacturer Link; ComponentLink1URL: http://sg.renesas.com/fmwk.jsp?cnt=740_family_landing.jsp&fp=/products/mpumcu/740_family/; ComponentLink2Description: Datasheet; ComponentLink2URL: http://documentation.renesas.com/eng/products/mpumcu/rej03b0130_7280ds.pdf; ComponentLink3Description: Packaging Specification; ComponentLink3URL: http://sg.renesas.com/media/products/common_info/package/pdf/ic/code/prdp0064ba_a.pdf
footprint PRDP0064BA-A (DIP, 64-Leads, Row Spacing 19.05mm, Pitch 1.778mm, Body 56.4x17mm)
pins: 1 HSYNC (in), 2 VSYNC (in), 3 P4_0 / AD4 (in), 4 P4_1 / INT2 (in), 5 P4_2 / TIM2 (in), 6 P4_3 / TIM3 (in), 7 P2_4 / AD3 (io), 8 P2_5 / AD2 (io), 9 P2_6 / AD1 (io), 10 P2_7 / AD5 (io), 11 P0_0 / PWM4 (io), 12 P5_0 / PWM7 (out), 13 P0_1 / PWM5 (io), 14 P4_7 (out), 15 P0_2 / PWM6 (io), 16 P5_1 (out), 17 P1_7 / SIN / R0 (io), 18 P3_2 (out), 19 P4_4 / INT1 (in), 20 P5_6 (out), 21 P4_5 / SOUT (io), 22 P5_7 (out), 23 P4_6 / SCLK (io), 24 AVCC (power), 25 HLF / AD6 (in), 26 P7_2 / (SIN) (in), 27 P7_1 / VHOLD (in), 28 P7_0 / CVIN (in), 29 CNVSS (power), 30 XIN (in), 31 XOUT (out), 32 VSS (power), 33 VCC (power), 34 P6_3 / OSC1 / XCIN (in), 35 P6_4 / OSC2 / XCOUT (io), 36 ~{RESET} (in), 37 P3_1 / AD8 (io), 38 P3_0 / AD7 (io), 39 P0_3 / PWM7 (io), 40 P1_6 / INT3 / B0 (io), 41 P1_5 / G0 (io), 42 P1_4 / SDA2 (io), 43 P1_3 / SDA1 (io), 44 P6_7 (out), 45 P1_2 / SCL2 (io), 46 P6_6 (out), 47 P1_1 / SCL1 (io), 48 P6_5 (out), 49 P1_0 / OUT2 (io), 50 P2_3 (io), 51 P2_2 (io), 52 P2_1 (io), 53 P2_0 (io), 54 P6_2 (out), 55 P0_7 / PWM3 (io), 56 P6_1 (out), 57 P0_6 / PWM2 (io), 58 P6_0 (out), 59 P0_5 / PWM1 (io), 60 P0_4 / PWM0 (io), 61 P5_5 / OUT1 (out), 62 P5_4 / B / B1 (out), 63 P5_3 / G / G1 (out), 64 P5_2 / R / R1 (out)

## M37280MFH-XXXSP
designator U?
Mask ROM 8-BIT CMOS Microcomputer, 7200 Series CPU, 7280 Group, 60K ROM, 1088 bytes RAM, 64P4B Pkg; ComponentAvailability: Check status with vendor; Published: 28-Aug-2009; DatasheetVersion: Rev.1.00, Apr-2002; PackageVersion: Sep-2005; PackageReference: PRDP0064BA-A; Publisher: Altium Limited; PackageDescription: 64-Pin Plastic Shrink DIP, 56.4 x 17 mm Body, 19.05 mm Row Spacing , 1.778 mm Pitch; Code_JEITA: P-SDIP64-17x56.4-1.78; ComponentLink1Description: Manufacturer Link; ComponentLink1URL: http://sg.renesas.com/fmwk.jsp?cnt=740_family_landing.jsp&fp=/products/mpumcu/740_family/; ComponentLink2Description: Datasheet; ComponentLink2URL: http://documentation.renesas.com/eng/products/mpumcu/rej03b0130_7280ds.pdf; ComponentLink3Description: Packaging Specification; ComponentLink3URL: http://sg.renesas.com/media/products/common_info/package/pdf/ic/code/prdp0064ba_a.pdf
footprint PRDP0064BA-A (DIP, 64-Leads, Row Spacing 19.05mm, Pitch 1.778mm, Body 56.4x17mm)
pins: 1 HSYNC (in), 2 VSYNC (in), 3 P4_0 / AD4 (in), 4 P4_1 / INT2 (in), 5 P4_2 / TIM2 (in), 6 P4_3 / TIM3 (in), 7 P2_4 / AD3 (io), 8 P2_5 / AD2 (io), 9 P2_6 / AD1 (io), 10 P2_7 / AD5 (io), 11 P0_0 / PWM4 (io), 12 P5_0 / PWM7 (out), 13 P0_1 / PWM5 (io), 14 P4_7 (out), 15 P0_2 / PWM6 (io), 16 P5_1 (out), 17 P1_7 / SIN / R0 (io), 18 P3_2 (out), 19 P4_4 / INT1 (in), 20 P5_6 (out), 21 P4_5 / SOUT (io), 22 P5_7 (out), 23 P4_6 / SCLK (io), 24 NC, 25 HLF / AD6 (in), 26 P7_2 / (SIN) (in), 27 P7_1 / VHOLD (in), 28 P7_0 / CVIN (in), 29 CNVSS (power), 30 XIN (in), 31 XOUT (out), 32 VSS (power), 33 VCC (power), 34 P6_3 / OSC1 / XCIN (in), 35 P6_4 / OSC2 / XCOUT (io), 36 ~{RESET} (in), 37 P3_1 / AD8 (io), 38 P3_0 / AD7 (io), 39 P0_3 / PWM7 (io), 40 P1_6 / INT3 / B0 (io), 41 P1_5 / G0 (io), 42 P1_4 / SDA2 (io), 43 P1_3 / SDA1 (io), 44 P6_7 (out), 45 P1_2 / SCL2 (io), 46 P6_6 (out), 47 P1_1 / SCL1 (io), 48 P6_5 (out), 49 P1_0 / OUT2 (io), 50 P2_3 (io), 51 P2_2 (io), 52 P2_1 (io), 53 P2_0 (io), 54 P6_2 (out), 55 P0_7 / PWM3 (io), 56 P6_1 (out), 57 P0_6 / PWM2 (io), 58 P6_0 (out), 59 P0_5 / PWM1 (io), 60 P0_4 / PWM0 (io), 61 P5_5 / OUT1 (out), 62 P5_4 / B / B1 (out), 63 P5_3 / G / G1 (out), 64 P5_2 / R / R1 (out)

## M37280MKH-XXXSP
designator U?
Mask ROM 8-BIT CMOS Microcomputer, 7200 Series CPU, 7280 Group, 80K ROM, 1.5K RAM, 64P4B Pkg; ComponentAvailability: Check status with vendor; Published: 28-Aug-2009; DatasheetVersion: Rev.1.00, Apr-2002; PackageVersion: Sep-2005; PackageReference: PRDP0064BA-A; Publisher: Altium Limited; PackageDescription: 64-Pin Plastic Shrink DIP, 56.4 x 17 mm Body, 19.05 mm Row Spacing , 1.778 mm Pitch; Code_JEITA: P-SDIP64-17x56.4-1.78; ComponentLink1Description: Manufacturer Link; ComponentLink1URL: http://sg.renesas.com/fmwk.jsp?cnt=740_family_landing.jsp&fp=/products/mpumcu/740_family/; ComponentLink2Description: Datasheet; ComponentLink2URL: http://documentation.renesas.com/eng/products/mpumcu/rej03b0130_7280ds.pdf; ComponentLink3Description: Packaging Specification; ComponentLink3URL: http://sg.renesas.com/media/products/common_info/package/pdf/ic/code/prdp0064ba_a.pdf
footprint PRDP0064BA-A (DIP, 64-Leads, Row Spacing 19.05mm, Pitch 1.778mm, Body 56.4x17mm)
pins: 1 HSYNC (in), 2 VSYNC (in), 3 P4_0 / AD4 (in), 4 P4_1 / INT2 (in), 5 P4_2 / TIM2 (in), 6 P4_3 / TIM3 (in), 7 P2_4 / AD3 (io), 8 P2_5 / AD2 (io), 9 P2_6 / AD1 (io), 10 P2_7 / AD5 (io), 11 P0_0 / PWM4 (io), 12 P5_0 / PWM7 (out), 13 P0_1 / PWM5 (io), 14 P4_7 (out), 15 P0_2 / PWM6 (io), 16 P5_1 (out), 17 P1_7 / SIN / R0 (io), 18 P3_2 (out), 19 P4_4 / INT1 (in), 20 P5_6 (out), 21 P4_5 / SOUT (io), 22 P5_7 (out), 23 P4_6 / SCLK (io), 24 NC, 25 HLF / AD6 (in), 26 P7_2 / (SIN) (in), 27 P7_1 / VHOLD (in), 28 P7_0 / CVIN (in), 29 CNVSS (power), 30 XIN (in), 31 XOUT (out), 32 VSS (power), 33 VCC (power), 34 P6_3 / OSC1 / XCIN (in), 35 P6_4 / OSC2 / XCOUT (io), 36 ~{RESET} (in), 37 P3_1 / AD8 (io), 38 P3_0 / AD7 (io), 39 P0_3 / PWM7 (io), 40 P1_6 / INT3 / B0 (io), 41 P1_5 / G0 (io), 42 P1_4 / SDA2 (io), 43 P1_3 / SDA1 (io), 44 P6_7 (out), 45 P1_2 / SCL2 (io), 46 P6_6 (out), 47 P1_1 / SCL1 (io), 48 P6_5 (out), 49 P1_0 / OUT2 (io), 50 P2_3 (io), 51 P2_2 (io), 52 P2_1 (io), 53 P2_0 (io), 54 P6_2 (out), 55 P0_7 / PWM3 (io), 56 P6_1 (out), 57 P0_6 / PWM2 (io), 58 P6_0 (out), 59 P0_5 / PWM1 (io), 60 P0_4 / PWM0 (io), 61 P5_5 / OUT1 (out), 62 P5_4 / B / B1 (out), 63 P5_3 / G / G1 (out), 64 P5_2 / R / R1 (out)

## M37281EKSP
designator U?
OTP 8-BIT CMOS Microcomputer, 7200 Series CPU, 7281 Group, 80K ROM, 1.5K RAM, 52P4B Pkg; ComponentAvailability: Check status with vendor; Published: 28-Aug-2009; DatasheetVersion: Rev.1.01, Jul-2003; PackageVersion: Sep-2005; PackageReference: PRDP0052BA-A; Publisher: Altium Limited; PackageDescription: 52-Pin Plastic Shrink DIP, 45.9 x 13 mm Body, 15.24 mm Row Spacing, 1.778 mm Pitch; Code_JEITA: P-SDIP52-13x45.85-1.78; ComponentLink1Description: Manufacturer Link; ComponentLink1URL: http://sg.renesas.com/fmwk.jsp?cnt=740_family_landing.jsp&fp=/products/mpumcu/740_family/; ComponentLink2Description: Datasheet; ComponentLink2URL: http://documentation.renesas.com/eng/products/mpumcu/rej03b0049_37281ds.pdf; ComponentLink3Description: Packaging Specification; ComponentLink3URL: http://sg.renesas.com/media/products/common_info/package/pdf/ic/code/prdp0052ba_a.pdf
footprint PRDP0052BA-A (DIP, 52-Leads, Row Spacing 15.24mm, Pitch 1.778mm, Body 45.9x13mm)
pins: 1 HSYNC (in), 2 VSYNC (in), 3 P4_0 / AD4 (in), 4 P4_1 / INT2 (in), 5 P4_2 / TIM2 (in), 6 P4_3 / TIM3 (in), 7 P2_4 / AD3 (io), 8 P2_5 / AD2 (io), 9 P2_6 / AD1 (io), 10 P2_7 / AD5 (io), 11 P0_0 / PWM4 (io), 12 P0_1 / PWM5 (io), 13 P0_2 / PWM6 (io), 14 P1_7 / SIN / R0 (io), 15 P4_4 / INT1 (in), 16 P4_5 / SOUT (io), 17 P4_6 / SCLK (io), 18 AVCC (power), 19 HLF / AD6 (io), 20 P7_2 / (SIN) (in), 21 P7_1 / VHOLD (in), 22 P7_0 / CVIN (in), 23 CNVSS (power), 24 XIN (in), 25 XOUT (out), 26 VSS (power), 27 VCC (power), 28 P6_3 / OSC1 / XCIN (in), 29 P6_4 / OSC2 / XCOUT (io), 30 ~{RESET} (in), 31 P3_1 / AD8 (io), 32 P3_0 / AD7 (io), 33 P0_3 / PWM7 (io), 34 P1_6 / INT3 / B0 (io), 35 P1_5 / G0 (io), 36 P1_4 / SDA2 (io), 37 P1_3 / SDA1 (io), 38 P1_2 / SCL2 (io), 39 P1_1 / SCL1 (io), 40 P1_0 / OUT2 (io), 41 P2_3 (io), 42 P2_2 (io), 43 P2_1 (io), 44 P2_0 (io), 45 P0_7 / PWM3 (io), 46 P0_6 / PWM2 (io), 47 P0_5 / PWM1 (io), 48 P0_4 / PWM0 (io), 49 P5_5 / OUT1 (out), 50 P5_4 / B / B1 (out), 51 P5_3 / G / G1 (out), 52 P5_2 / R / R1 (out)

## M37281MAH-XXXSP
designator U?
Mask ROM 8-BIT CMOS Microcomputer, 7200 Series CPU, 7281 Group, 40K ROM, 1088 bytes RAM, 52P4B Pkg; ComponentAvailability: Check status with vendor; Published: 28-Aug-2009; DatasheetVersion: Rev.1.01, Jul-2003; PackageVersion: Sep-2005; PackageReference: PRDP0052BA-A; Publisher: Altium Limited; PackageDescription: 52-Pin Plastic Shrink DIP, 45.9 x 13 mm Body, 15.24 mm Row Spacing, 1.778 mm Pitch; Code_JEITA: P-SDIP52-13x45.85-1.78; ComponentLink1Description: Manufacturer Link; ComponentLink1URL: http://sg.renesas.com/fmwk.jsp?cnt=740_family_landing.jsp&fp=/products/mpumcu/740_family/; ComponentLink2Description: Datasheet; ComponentLink2URL: http://documentation.renesas.com/eng/products/mpumcu/rej03b0049_37281ds.pdf; ComponentLink3Description: Packaging Specification; ComponentLink3URL: http://sg.renesas.com/media/products/common_info/package/pdf/ic/code/prdp0052ba_a.pdf
footprint PRDP0052BA-A (DIP, 52-Leads, Row Spacing 15.24mm, Pitch 1.778mm, Body 45.9x13mm)
pins: 1 HSYNC (in), 2 VSYNC (in), 3 P4_0 / AD4 (in), 4 P4_1 / INT2 (in), 5 P4_2 / TIM2 (in), 6 P4_3 / TIM3 (in), 7 P2_4 / AD3 (io), 8 P2_5 / AD2 (io), 9 P2_6 / AD1 (io), 10 P2_7 / AD5 (io), 11 P0_0 / PWM4 (io), 12 P0_1 / PWM5 (io), 13 P0_2 / PWM6 (io), 14 P1_7 / SIN / R0 (io), 15 P4_4 / INT1 (in), 16 P4_5 / SOUT (io), 17 P4_6 / SCLK (io), 18 NC, 19 HLF / AD6 (io), 20 P7_2 / (SIN) (in), 21 P7_1 / VHOLD (in), 22 P7_0 / CVIN (in), 23 CNVSS (power), 24 XIN (in), 25 XOUT (out), 26 VSS (power), 27 VCC (power), 28 P6_3 / OSC1 / XCIN (in), 29 P6_4 / OSC2 / XCOUT (io), 30 ~{RESET} (in), 31 P3_1 / AD8 (io), 32 P3_0 / AD7 (io), 33 P0_3 / PWM7 (io), 34 P1_6 / INT3 / B0 (io), 35 P1_5 / G0 (io), 36 P1_4 / SDA2 (io), 37 P1_3 / SDA1 (io), 38 P1_2 / SCL2 (io), 39 P1_1 / SCL1 (io), 40 P1_0 / OUT2 (io), 41 P2_3 (io), 42 P2_2 (io), 43 P2_1 (io), 44 P2_0 (io), 45 P0_7 / PWM3 (io), 46 P0_6 / PWM2 (io), 47 P0_5 / PWM1 (io), 48 P0_4 / PWM0 (io), 49 P5_5 / OUT1 (out), 50 P5_4 / B / B1 (out), 51 P5_3 / G / G1 (out), 52 P5_2 / R / R1 (out)

## M37281MFH-XXXSP
designator U?
Mask ROM 8-BIT CMOS Microcomputer, 7200 Series CPU, 7281 Group, 60K ROM, 1088 bytes RAM, 52P4B Pkg; ComponentAvailability: Check status with vendor; Published: 28-Aug-2009; DatasheetVersion: Rev.1.01, Jul-2003; PackageVersion: Sep-2005; PackageReference: PRDP0052BA-A; Publisher: Altium Limited; PackageDescription: 52-Pin Plastic Shrink DIP, 45.9 x 13 mm Body, 15.24 mm Row Spacing, 1.778 mm Pitch; Code_JEITA: P-SDIP52-13x45.85-1.78; ComponentLink1Description: Manufacturer Link; ComponentLink1URL: http://sg.renesas.com/fmwk.jsp?cnt=740_family_landing.jsp&fp=/products/mpumcu/740_family/; ComponentLink2Description: Datasheet; ComponentLink2URL: http://documentation.renesas.com/eng/products/mpumcu/rej03b0049_37281ds.pdf; ComponentLink3Description: Packaging Specification; ComponentLink3URL: http://sg.renesas.com/media/products/common_info/package/pdf/ic/code/prdp0052ba_a.pdf
footprint PRDP0052BA-A (DIP, 52-Leads, Row Spacing 15.24mm, Pitch 1.778mm, Body 45.9x13mm)
pins: 1 HSYNC (in), 2 VSYNC (in), 3 P4_0 / AD4 (in), 4 P4_1 / INT2 (in), 5 P4_2 / TIM2 (in), 6 P4_3 / TIM3 (in), 7 P2_4 / AD3 (io), 8 P2_5 / AD2 (io), 9 P2_6 / AD1 (io), 10 P2_7 / AD5 (io), 11 P0_0 / PWM4 (io), 12 P0_1 / PWM5 (io), 13 P0_2 / PWM6 (io), 14 P1_7 / SIN / R0 (io), 15 P4_4 / INT1 (in), 16 P4_5 / SOUT (io), 17 P4_6 / SCLK (io), 18 NC, 19 HLF / AD6 (io), 20 P7_2 / (SIN) (in), 21 P7_1 / VHOLD (in), 22 P7_0 / CVIN (in), 23 CNVSS (power), 24 XIN (in), 25 XOUT (out), 26 VSS (power), 27 VCC (power), 28 P6_3 / OSC1 / XCIN (in), 29 P6_4 / OSC2 / XCOUT (io), 30 ~{RESET} (in), 31 P3_1 / AD8 (io), 32 P3_0 / AD7 (io), 33 P0_3 / PWM7 (io), 34 P1_6 / INT3 / B0 (io), 35 P1_5 / G0 (io), 36 P1_4 / SDA2 (io), 37 P1_3 / SDA1 (io), 38 P1_2 / SCL2 (io), 39 P1_1 / SCL1 (io), 40 P1_0 / OUT2 (io), 41 P2_3 (io), 42 P2_2 (io), 43 P2_1 (io), 44 P2_0 (io), 45 P0_7 / PWM3 (io), 46 P0_6 / PWM2 (io), 47 P0_5 / PWM1 (io), 48 P0_4 / PWM0 (io), 49 P5_5 / OUT1 (out), 50 P5_4 / B / B1 (out), 51 P5_3 / G / G1 (out), 52 P5_2 / R / R1 (out)

## M37281MKH-XXXSP
designator U?
Mask ROM 8-BIT CMOS Microcomputer, 7200 Series CPU, 7281 Group, 80K ROM, 1.5K RAM, 52P4B Pkg; ComponentAvailability: Check status with vendor; Published: 28-Aug-2009; DatasheetVersion: Rev.1.01, Jul-2003; PackageVersion: Sep-2005; PackageReference: PRDP0052BA-A; Publisher: Altium Limited; PackageDescription: 52-Pin Plastic Shrink DIP, 45.9 x 13 mm Body, 15.24 mm Row Spacing, 1.778 mm Pitch; Code_JEITA: P-SDIP52-13x45.85-1.78; ComponentLink1Description: Manufacturer Link; ComponentLink1URL: http://sg.renesas.com/fmwk.jsp?cnt=740_family_landing.jsp&fp=/products/mpumcu/740_family/; ComponentLink2Description: Datasheet; ComponentLink2URL: http://documentation.renesas.com/eng/products/mpumcu/rej03b0049_37281ds.pdf; ComponentLink3Description: Packaging Specification; ComponentLink3URL: http://sg.renesas.com/media/products/common_info/package/pdf/ic/code/prdp0052ba_a.pdf
footprint PRDP0052BA-A (DIP, 52-Leads, Row Spacing 15.24mm, Pitch 1.778mm, Body 45.9x13mm)
pins: 1 HSYNC (in), 2 VSYNC (in), 3 P4_0 / AD4 (in), 4 P4_1 / INT2 (in), 5 P4_2 / TIM2 (in), 6 P4_3 / TIM3 (in), 7 P2_4 / AD3 (io), 8 P2_5 / AD2 (io), 9 P2_6 / AD1 (io), 10 P2_7 / AD5 (io), 11 P0_0 / PWM4 (io), 12 P0_1 / PWM5 (io), 13 P0_2 / PWM6 (io), 14 P1_7 / SIN / R0 (io), 15 P4_4 / INT1 (in), 16 P4_5 / SOUT (io), 17 P4_6 / SCLK (io), 18 NC, 19 HLF / AD6 (io), 20 P7_2 / (SIN) (in), 21 P7_1 / VHOLD (in), 22 P7_0 / CVIN (in), 23 CNVSS (power), 24 XIN (in), 25 XOUT (out), 26 VSS (power), 27 VCC (power), 28 P6_3 / OSC1 / XCIN (in), 29 P6_4 / OSC2 / XCOUT (io), 30 ~{RESET} (in), 31 P3_1 / AD8 (io), 32 P3_0 / AD7 (io), 33 P0_3 / PWM7 (io), 34 P1_6 / INT3 / B0 (io), 35 P1_5 / G0 (io), 36 P1_4 / SDA2 (io), 37 P1_3 / SDA1 (io), 38 P1_2 / SCL2 (io), 39 P1_1 / SCL1 (io), 40 P1_0 / OUT2 (io), 41 P2_3 (io), 42 P2_2 (io), 43 P2_1 (io), 44 P2_0 (io), 45 P0_7 / PWM3 (io), 46 P0_6 / PWM2 (io), 47 P0_5 / PWM1 (io), 48 P0_4 / PWM0 (io), 49 P5_5 / OUT1 (out), 50 P5_4 / B / B1 (out), 51 P5_3 / G / G1 (out), 52 P5_2 / R / R1 (out)

## M37516F8HP
designator U?
Flash Memory 8-BIT CMOS Microcomputer, 38000/740 Series CPU, 7516 Group, 32K ROM, 1K RAM, 48P6Q-A Pkg; Published: 28-Aug-2009; DatasheetVersion: Rev.1.01, Jul-2003; PackageVersion: Oct-2005; PackageReference: PLQP0048KB-A; Publisher: Altium Limited; PackageDescription: 48-Pin Plastic Low Profile QFP, 7 x 7 x 1.4 mm Body, 0.5 mm Pitch; Supplier 1: Digi-Key; Supplier Part Number 1: M37516F8HP-ND; Code_JEITA: P-LQFP48-7x7-0.50; Code_IPC: SQFP50P900X900-48; ComponentLink1Description: Manufacturer Link; ComponentLink1URL: http://sg.renesas.com/fmwk.jsp?cnt=740_family_landing.jsp&fp=/products/mpumcu/740_family/; ComponentLink2Description: Datasheet; ComponentLink2URL: http://documentation.renesas.com/eng/products/mpumcu/rej03b0042_7516ds.pdf; ComponentLink3Description: Packaging Specification; ComponentLink3URL: http://sg.renesas.com/media/products/common_info/package/pdf/ic/code/plqp0048kb_a.pdf
footprint PLQP0048KB-A_N (Shrink QFP, 48-Leads, Body 7x7mm, Pitch 0.5mm, IPC Medium Density)
footprint PLQP0048KB-A_L (Shrink QFP, 48-Leads, Body 7x7mm, Pitch 0.5mm, IPC High Density)
footprint PLQP0048KB-A_M (Shrink QFP, 48-Leads, Body 7x7mm, Pitch 0.5mm, IPC Low Density)
pins: 1 P4_4 / INT3 / PWM (io), 2 P4_3 / INT2 / SCMP2 (io), 3 P4_2 / INT1 (io), 4 P4_1 / INT0 (io), 5 P4_0 / CNTR1 (io), 6 P2_7 / CNTR0 / ~{SRDY}1 (io), 7 P2_6 / SCLK1 (io), 8 P2_5 / SCL2 / TxD (io), 9 P2_4 / SDA2 / RxD (io), 10 P2_3 / SCL1 (io), 11 P2_2 / SDA1 (io), 12 CNVSS (power), 13 P2_1 / XCIN (io), 14 P2_0 / XCOUT (io), 15 ~{RESET} (in), 16 XIN (in), 17 XOUT (out), 18 VSS (power), 19 P1_7 / (LED7) (io), 20 P1_6 / (LED6) (io), 21 P1_5 / (LED5) (io), 22 P1_4 / (LED4) (io), 23 P1_3 / (LED3) (io), 24 P1_2 / (LED2) (io), 25 P1_1 / (LED1) (io), 26 P1_0 / (LED0) (io), 27 P0_7 (io), 28 P0_6 (io), 29 P0_5 (io), 30 P0_4 (io), 31 P0_3 / ~{SRDY}2 (io), 32 P0_2 / SCLK2 (io), 33 P0_1 / SOUT2 (io), 34 P0_0 / SIN2 (io), 35 P3_7 / AN7 (io), 36 P3_6 / AN6 (io), 37 P3_5 / AN5 (io), 38 P3_4 / AN4 (io), 39 P3_3 / AN3 (io), 40 P3_2 / AN2 (io), 41 P3_1 / AN1 (io), 42 P3_0 / AN0 (io), 43 VCC (power), 44 VREF (in), 45 AVSS (power), 46 P4_7 (io), 47 P4_6 (io), 48 P4_5 (io)

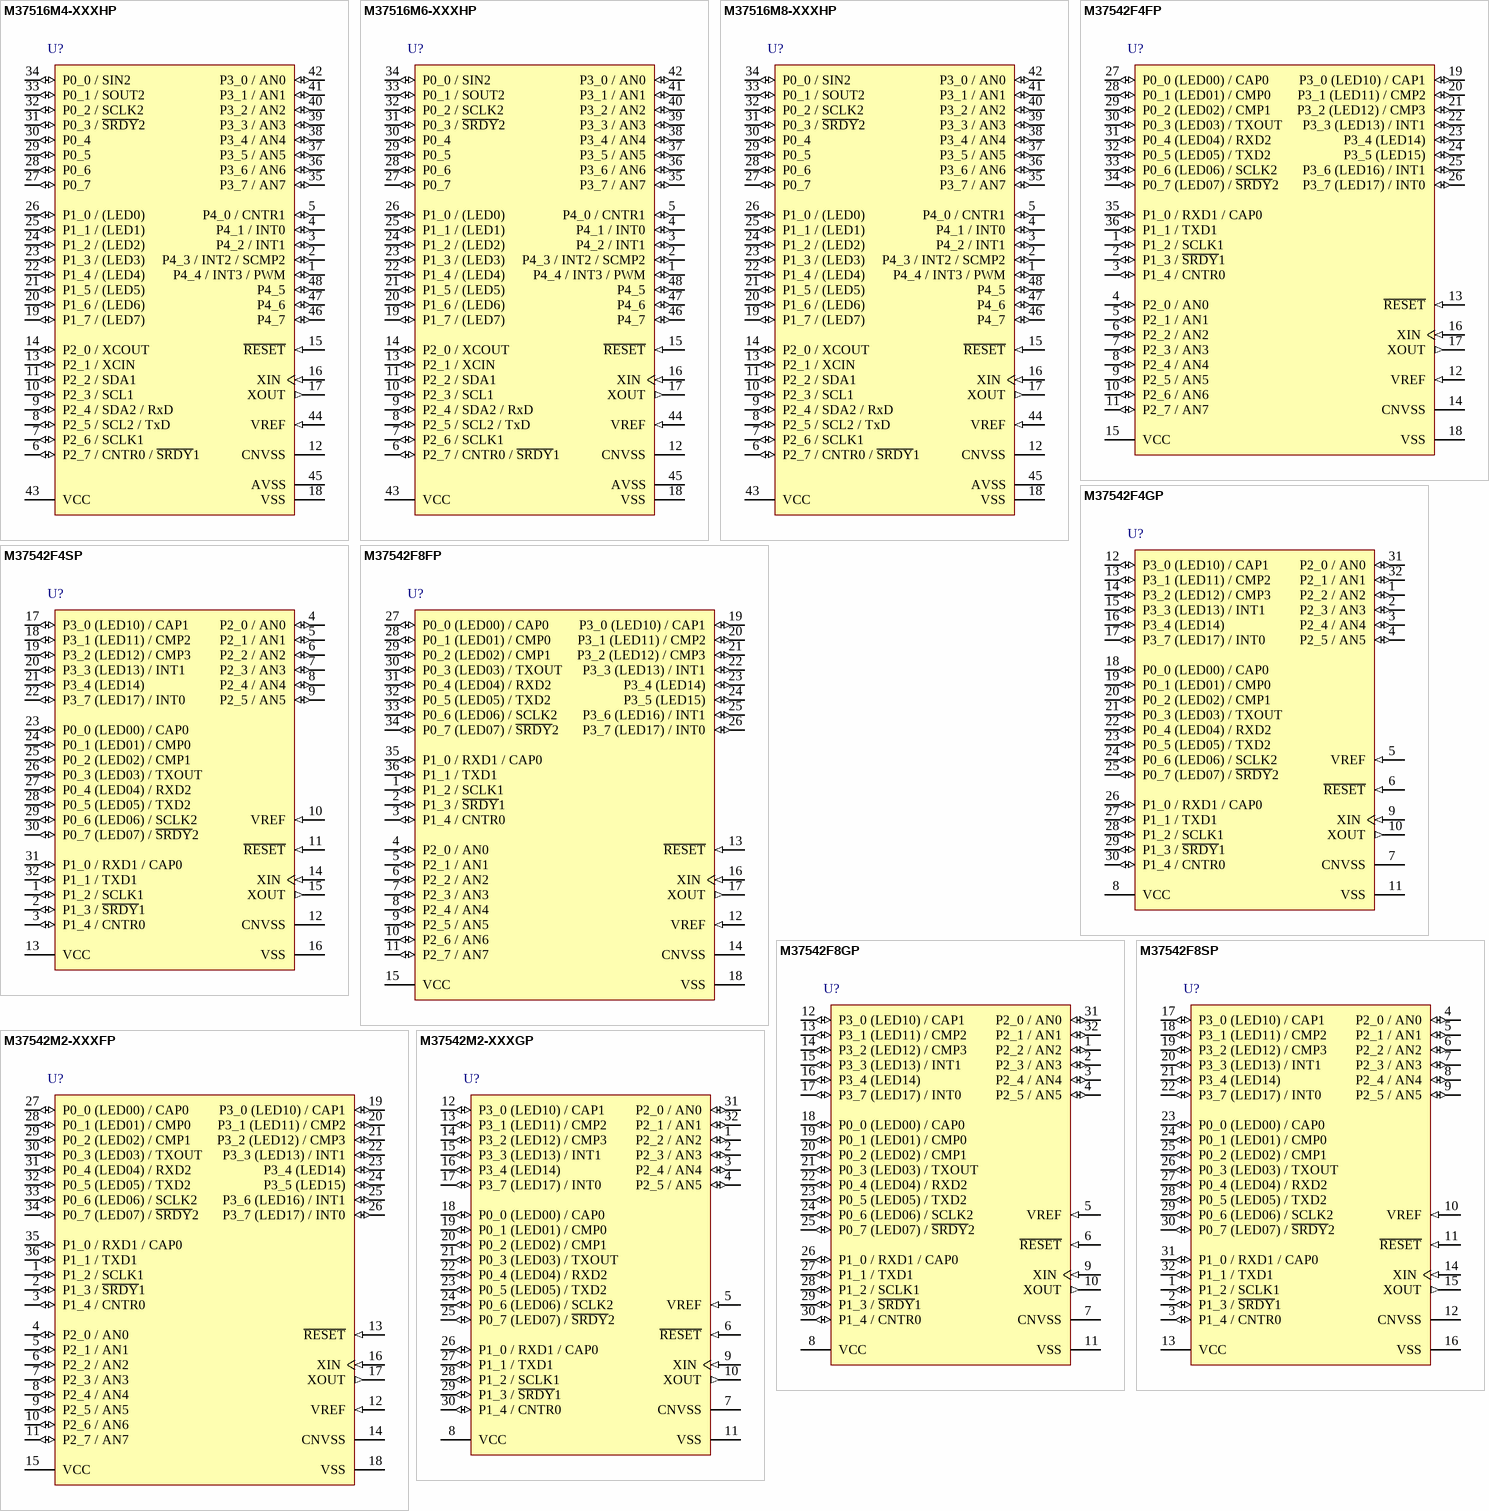
[diagram p16: symbols M37516M4-XXXHP to M37542M2-XXXGP]

## M37516M4-XXXHP
designator U?
Mask ROM 8-BIT CMOS Microcomputer, 38000/740 Series CPU, 7516 Group, 16K ROM, 512 bytes RAM, 48P6Q-A Pkg; Published: 28-Aug-2009; DatasheetVersion: Rev.1.01, Jul-2003; PackageVersion: Oct-2005; PackageReference: PLQP0048KB-A; Publisher: Altium Limited; PackageDescription: 48-Pin Plastic Low Profile QFP, 7 x 7 x 1.4 mm Body, 0.5 mm Pitch; Code_JEITA: P-LQFP48-7x7-0.50; Code_IPC: SQFP50P900X900-48; ComponentLink1Description: Manufacturer Link; ComponentLink1URL: http://sg.renesas.com/fmwk.jsp?cnt=740_family_landing.jsp&fp=/products/mpumcu/740_family/; ComponentLink2Description: Datasheet; ComponentLink2URL: http://documentation.renesas.com/eng/products/mpumcu/rej03b0042_7516ds.pdf; ComponentLink3Description: Packaging Specification; ComponentLink3URL: http://sg.renesas.com/media/products/common_info/package/pdf/ic/code/plqp0048kb_a.pdf
footprint PLQP0048KB-A_N (Shrink QFP, 48-Leads, Body 7x7mm, Pitch 0.5mm, IPC Medium Density)
footprint PLQP0048KB-A_L (Shrink QFP, 48-Leads, Body 7x7mm, Pitch 0.5mm, IPC High Density)
footprint PLQP0048KB-A_M (Shrink QFP, 48-Leads, Body 7x7mm, Pitch 0.5mm, IPC Low Density)
pins: 1 P4_4 / INT3 / PWM (io), 2 P4_3 / INT2 / SCMP2 (io), 3 P4_2 / INT1 (io), 4 P4_1 / INT0 (io), 5 P4_0 / CNTR1 (io), 6 P2_7 / CNTR0 / ~{SRDY}1 (io), 7 P2_6 / SCLK1 (io), 8 P2_5 / SCL2 / TxD (io), 9 P2_4 / SDA2 / RxD (io), 10 P2_3 / SCL1 (io), 11 P2_2 / SDA1 (io), 12 CNVSS (power), 13 P2_1 / XCIN (io), 14 P2_0 / XCOUT (io), 15 ~{RESET} (in), 16 XIN (in), 17 XOUT (out), 18 VSS (power), 19 P1_7 / (LED7) (io), 20 P1_6 / (LED6) (io), 21 P1_5 / (LED5) (io), 22 P1_4 / (LED4) (io), 23 P1_3 / (LED3) (io), 24 P1_2 / (LED2) (io), 25 P1_1 / (LED1) (io), 26 P1_0 / (LED0) (io), 27 P0_7 (io), 28 P0_6 (io), 29 P0_5 (io), 30 P0_4 (io), 31 P0_3 / ~{SRDY}2 (io), 32 P0_2 / SCLK2 (io), 33 P0_1 / SOUT2 (io), 34 P0_0 / SIN2 (io), 35 P3_7 / AN7 (io), 36 P3_6 / AN6 (io), 37 P3_5 / AN5 (io), 38 P3_4 / AN4 (io), 39 P3_3 / AN3 (io), 40 P3_2 / AN2 (io), 41 P3_1 / AN1 (io), 42 P3_0 / AN0 (io), 43 VCC (power), 44 VREF (in), 45 AVSS (power), 46 P4_7 (io), 47 P4_6 (io), 48 P4_5 (io)

## M37516M6-XXXHP
designator U?
Mask ROM 8-BIT CMOS Microcomputer, 38000/740 Series CPU, 7516 Group, 24K ROM, 640 bytes RAM, 48P6Q-A Pkg; Published: 28-Aug-2009; DatasheetVersion: Rev.1.01, Jul-2003; PackageVersion: Oct-2005; PackageReference: PLQP0048KB-A; Publisher: Altium Limited; PackageDescription: 48-Pin Plastic Low Profile QFP, 7 x 7 x 1.4 mm Body, 0.5 mm Pitch; Code_JEITA: P-LQFP48-7x7-0.50; Code_IPC: SQFP50P900X900-48; ComponentLink1Description: Manufacturer Link; ComponentLink1URL: http://sg.renesas.com/fmwk.jsp?cnt=740_family_landing.jsp&fp=/products/mpumcu/740_family/; ComponentLink2Description: Datasheet; ComponentLink2URL: http://documentation.renesas.com/eng/products/mpumcu/rej03b0042_7516ds.pdf; ComponentLink3Description: Packaging Specification; ComponentLink3URL: http://sg.renesas.com/media/products/common_info/package/pdf/ic/code/plqp0048kb_a.pdf
footprint PLQP0048KB-A_N (Shrink QFP, 48-Leads, Body 7x7mm, Pitch 0.5mm, IPC Medium Density)
footprint PLQP0048KB-A_L (Shrink QFP, 48-Leads, Body 7x7mm, Pitch 0.5mm, IPC High Density)
footprint PLQP0048KB-A_M (Shrink QFP, 48-Leads, Body 7x7mm, Pitch 0.5mm, IPC Low Density)
pins: 1 P4_4 / INT3 / PWM (io), 2 P4_3 / INT2 / SCMP2 (io), 3 P4_2 / INT1 (io), 4 P4_1 / INT0 (io), 5 P4_0 / CNTR1 (io), 6 P2_7 / CNTR0 / ~{SRDY}1 (io), 7 P2_6 / SCLK1 (io), 8 P2_5 / SCL2 / TxD (io), 9 P2_4 / SDA2 / RxD (io), 10 P2_3 / SCL1 (io), 11 P2_2 / SDA1 (io), 12 CNVSS (power), 13 P2_1 / XCIN (io), 14 P2_0 / XCOUT (io), 15 ~{RESET} (in), 16 XIN (in), 17 XOUT (out), 18 VSS (power), 19 P1_7 / (LED7) (io), 20 P1_6 / (LED6) (io), 21 P1_5 / (LED5) (io), 22 P1_4 / (LED4) (io), 23 P1_3 / (LED3) (io), 24 P1_2 / (LED2) (io), 25 P1_1 / (LED1) (io), 26 P1_0 / (LED0) (io), 27 P0_7 (io), 28 P0_6 (io), 29 P0_5 (io), 30 P0_4 (io), 31 P0_3 / ~{SRDY}2 (io), 32 P0_2 / SCLK2 (io), 33 P0_1 / SOUT2 (io), 34 P0_0 / SIN2 (io), 35 P3_7 / AN7 (io), 36 P3_6 / AN6 (io), 37 P3_5 / AN5 (io), 38 P3_4 / AN4 (io), 39 P3_3 / AN3 (io), 40 P3_2 / AN2 (io), 41 P3_1 / AN1 (io), 42 P3_0 / AN0 (io), 43 VCC (power), 44 VREF (in), 45 AVSS (power), 46 P4_7 (io), 47 P4_6 (io), 48 P4_5 (io)

## M37516M8-XXXHP
designator U?
Mask ROM 8-BIT CMOS Microcomputer, 38000/740 Series CPU, 7516 Group, 32K ROM, 1K RAM, 48P6Q-A Pkg; Published: 28-Aug-2009; DatasheetVersion: Rev.1.01, Jul-2003; PackageVersion: Oct-2005; PackageReference: PLQP0048KB-A; Publisher: Altium Limited; PackageDescription: 48-Pin Plastic Low Profile QFP, 7 x 7 x 1.4 mm Body, 0.5 mm Pitch; Code_JEITA: P-LQFP48-7x7-0.50; Code_IPC: SQFP50P900X900-48; ComponentLink1Description: Manufacturer Link; ComponentLink1URL: http://sg.renesas.com/fmwk.jsp?cnt=740_family_landing.jsp&fp=/products/mpumcu/740_family/; ComponentLink2Description: Datasheet; ComponentLink2URL: http://documentation.renesas.com/eng/products/mpumcu/rej03b0042_7516ds.pdf; ComponentLink3Description: Packaging Specification; ComponentLink3URL: http://sg.renesas.com/media/products/common_info/package/pdf/ic/code/plqp0048kb_a.pdf
footprint PLQP0048KB-A_N (Shrink QFP, 48-Leads, Body 7x7mm, Pitch 0.5mm, IPC Medium Density)
footprint PLQP0048KB-A_L (Shrink QFP, 48-Leads, Body 7x7mm, Pitch 0.5mm, IPC High Density)
footprint PLQP0048KB-A_M (Shrink QFP, 48-Leads, Body 7x7mm, Pitch 0.5mm, IPC Low Density)
pins: 1 P4_4 / INT3 / PWM (io), 2 P4_3 / INT2 / SCMP2 (io), 3 P4_2 / INT1 (io), 4 P4_1 / INT0 (io), 5 P4_0 / CNTR1 (io), 6 P2_7 / CNTR0 / ~{SRDY}1 (io), 7 P2_6 / SCLK1 (io), 8 P2_5 / SCL2 / TxD (io), 9 P2_4 / SDA2 / RxD (io), 10 P2_3 / SCL1 (io), 11 P2_2 / SDA1 (io), 12 CNVSS (power), 13 P2_1 / XCIN (io), 14 P2_0 / XCOUT (io), 15 ~{RESET} (in), 16 XIN (in), 17 XOUT (out), 18 VSS (power), 19 P1_7 / (LED7) (io), 20 P1_6 / (LED6) (io), 21 P1_5 / (LED5) (io), 22 P1_4 / (LED4) (io), 23 P1_3 / (LED3) (io), 24 P1_2 / (LED2) (io), 25 P1_1 / (LED1) (io), 26 P1_0 / (LED0) (io), 27 P0_7 (io), 28 P0_6 (io), 29 P0_5 (io), 30 P0_4 (io), 31 P0_3 / ~{SRDY}2 (io), 32 P0_2 / SCLK2 (io), 33 P0_1 / SOUT2 (io), 34 P0_0 / SIN2 (io), 35 P3_7 / AN7 (io), 36 P3_6 / AN6 (io), 37 P3_5 / AN5 (io), 38 P3_4 / AN4 (io), 39 P3_3 / AN3 (io), 40 P3_2 / AN2 (io), 41 P3_1 / AN1 (io), 42 P3_0 / AN0 (io), 43 VCC (power), 44 VREF (in), 45 AVSS (power), 46 P4_7 (io), 47 P4_6 (io), 48 P4_5 (io)